# Altium schematic symbol library THU VIEN CHAN v1.SchLib: 217 symbols (part 1 of 2)
Pins are listed as number, name and electrical type; pins without a type are passive.

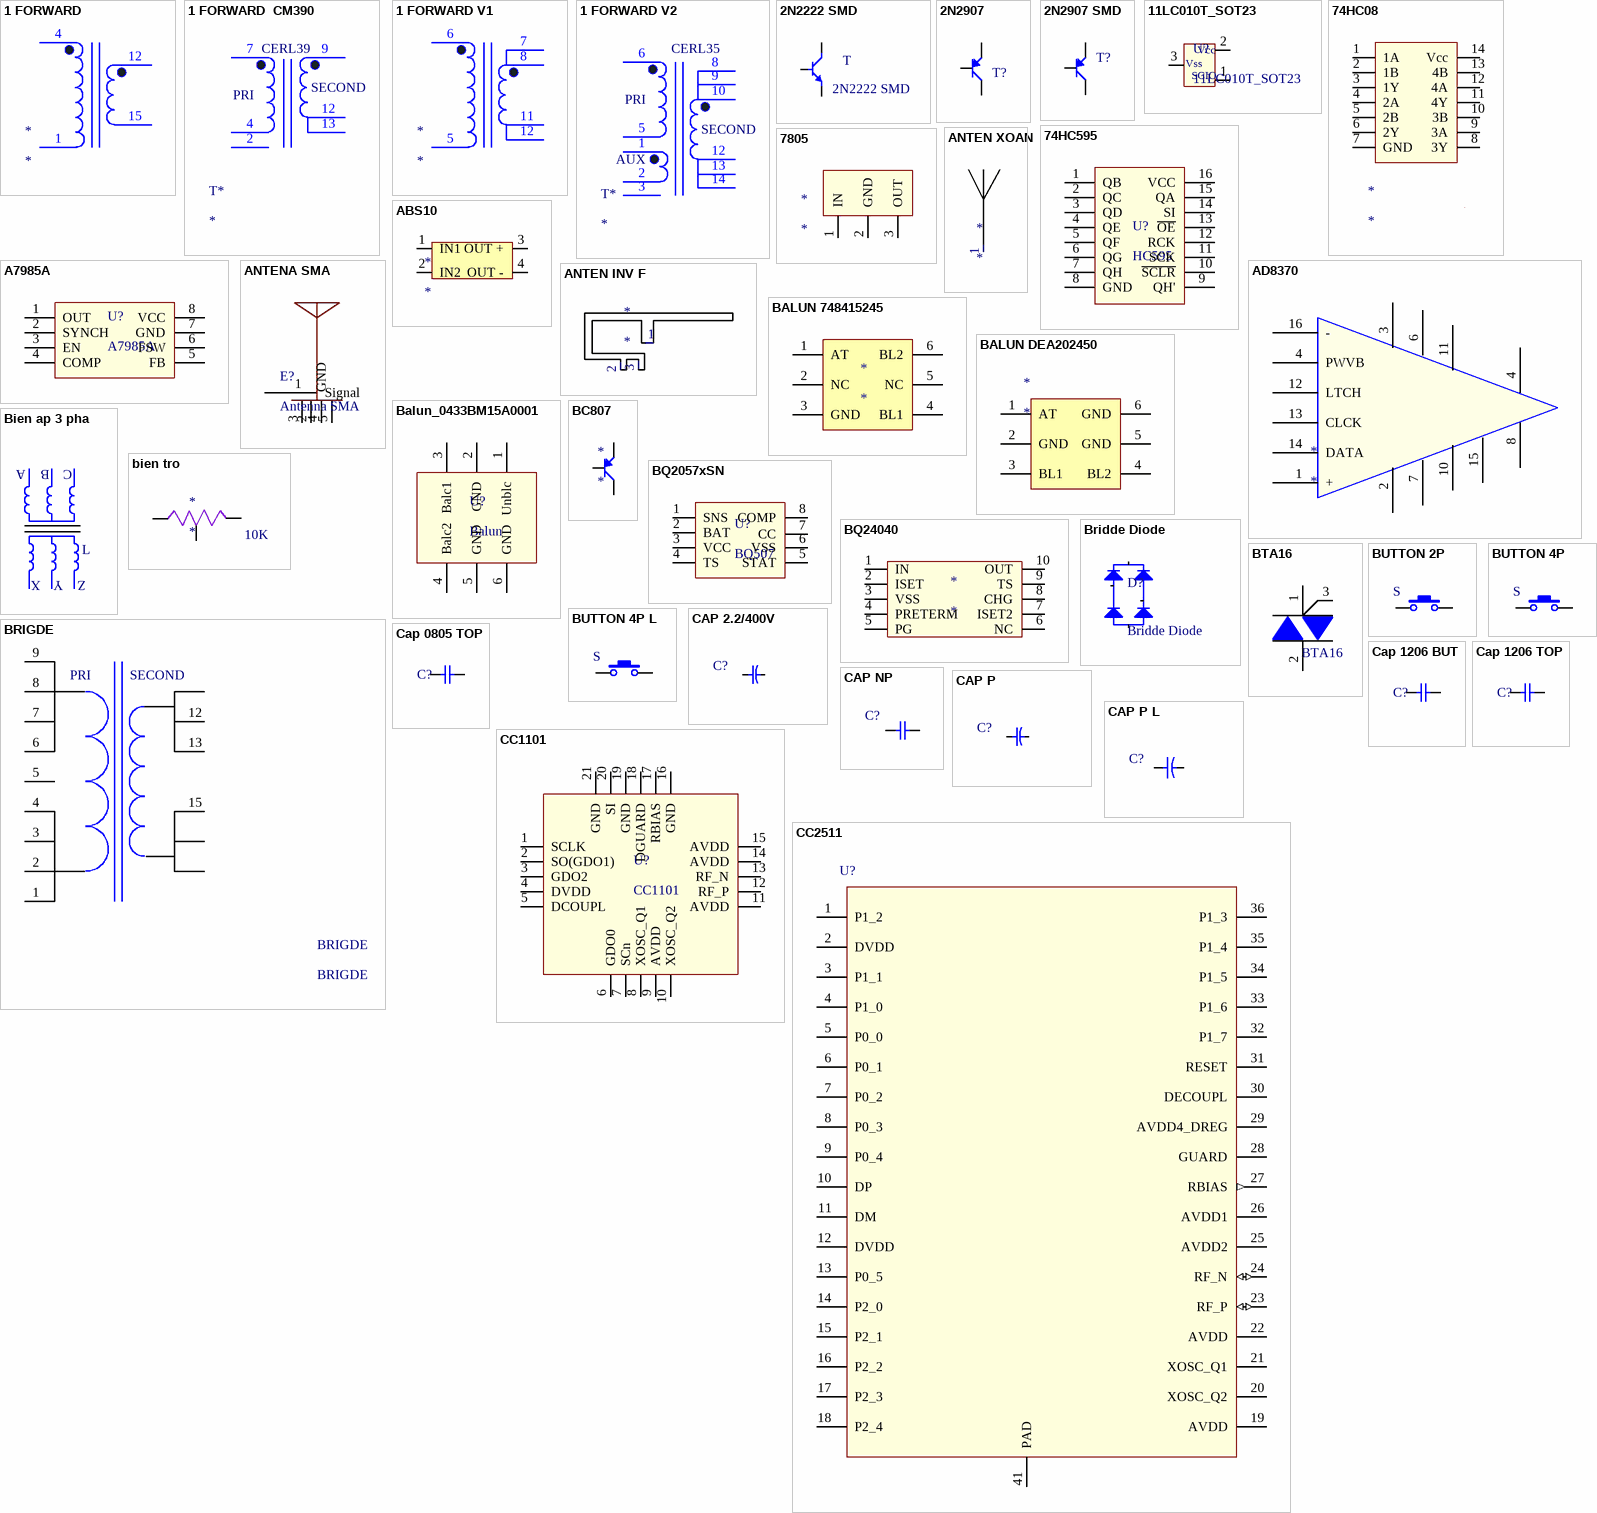
[diagram p0: symbols 1 FORWARD to CC2511]

## 1 FORWARD
designator *
footprint PUSHPULL_TRAN
pins: 1, 4, 12, 15

## 1 FORWARD  CM390
designator T*
footprint ERL39 - CM390
pins: 2, 4, 7, 9, 12, 13
text: CERL39; SECOND; PRI

## 1 FORWARD V1
designator *
footprint PUSHPULL_TRAN
pins: 5, 6, 7, 8, 11, 12

## 1 FORWARD V2
designator T*
footprint PUSHPULL_TRAN
pins: 1, 2, 3, 5, 6, 8, 9, 10, 12, 13, 14
text: CERL35; PRI; SECOND; AUX

## 2N2222 SMD
designator T
NPN Bipolar Transistor; Published: 8-Jun-2000; LatestRevisionDate: 17-Jul-2002; LatestRevisionNote: Re-released for DXP Platform.; PackageReference: TO-226; Publisher: Altium Limited; Code_JEDEC: TO-226-AA
footprint SOT23 TOP
simulation model NPN
signal-integrity model NPN
pins: 1 B, 2 C, 3 E

## 2N2907
designator T?
PNP Bipolar Transistor; Published: 8-Jun-2000; LatestRevisionDate: 17-Jul-2002; LatestRevisionNote: Re-released for DXP Platform.; PackageReference: SOT-23B; Publisher: Altium Limited; Code_JEDEC: SOT-23
footprint tran
simulation model PNP
signal-integrity model PNP
pins: 1 E, 2 B, 3 C

## 2N2907 SMD
designator T?
PNP Bipolar Transistor; Published: 8-Jun-2000; LatestRevisionDate: 17-Jul-2002; LatestRevisionNote: Re-released for DXP Platform.; PackageReference: SOT-23B; Publisher: Altium Limited; Code_JEDEC: SOT-23
footprint SOT23 TOP
simulation model PNP
signal-integrity model PNP
pins: 1 B, 2 C, 3 E

## 11LC010T_SOT23
designator U?
footprint SOT_23_TO_236AB (SOT23 OR TO-236AB)
pins: 1 SCIO, 2 VCC, 3 VSS
text: Vcc; Vss

## 74HC08
designator *
footprint Model Name (Footprint not found)
footprint so14 (SOIC, 16-Leads, Body 9.9x3.9mm, Pitch 1.27mm, IPC Medium Density)
pins: 1 1A, 2 1B, 3 1Y, 4 2A, 5 2B, 6 2Y, 7 GND, 8 3Y, 9 3A, 10 3B, 11 4Y, 12 4A, 13 4B, 14 Vcc

## 74HC595
designator U?, comment HC595
footprint DIP16 (DIP, 40-Leads, Row Spacing 15.24mm, Pitch 2.54mm, Body 51.8x13.5mm)
pins: 1 QB, 2 QC, 3 QD, 4 QE, 5 QF, 6 QG, 7 QH, 8 GND, 9 QH', 10 ~{SCLR}, 11 SCK, 12 RCK, 13 ~{OE}, 14 SI, 15 QA, 16 VCC

## 7805
designator *
footprint 78XX
pins: 1 IN, 2 GND, 3 OUT

## A7985A
designator U?
pins: 1 OUT, 2 SYNCH, 3 EN, 4 COMP, 5 FB, 6 FSW, 7 GND, 8 VCC

## ABS10
designator *
footprint abs10
pins: 1 IN1, 2 IN2, 3 OUT +, 4 OUT -

## AD8370
designator *
pins: 1 +, 2, 3, 4 PWVB , 4, 6, 7, 8, 10, 11, 12 LTCH, 13 CLCK, 14 DATA, 15, 16 -

## ANTEN INV F
designator *
footprint anten INV F thin
pins: 1, 2, 3

## ANTEN XOAN
designator *
footprint ATEN XOAN
pins: 1

## ANTENA SMA
designator E?, comment Antenna SMA
footprint ANTENA SMA
pins: 1 Signal, 2 GND, 3 GND, 4 GND, 5 GND

## BALUN 748415245
designator *
footprint BALUN 748415245
pins: 1 AT, 2 NC, 3 GND, 4 BL1, 5 NC, 6 BL2

## BALUN DEA202450
designator *
footprint BALUN DEA202450BT-7210A1
pins: 1 AT, 2 GND, 3 BL1, 4 BL2, 5 GND, 6 GND

## Balun_0433BM15A0001
designator U?, comment Balun
footprint Balun_0433BM15A0001
pins: 1 Unblc, 2 GND, 3 Balc1, 4 Balc2, 5 GND, 6 GND

## BC807
designator *
footprint SOT-323
pins: 1 B, 2 E, 3 C

## Bien ap 3 pha
designator L
Inductor S; Code_IEC: 1005; Value: 10mH; Published: 8-Jun-2000; LatestRevisionDate: 17-Jul-2002; LatestRevisionNote: Re-released for DXP Platform.; PackageReference: 0402-A; Publisher: Altium Limited; Code_JEITA: 0402
simulation model INDUCTOR (Inductor)
signal-integrity model Inductor
footprint cuon cam 200M 3C
pins: 2, 2, 2, 2, 2, 2
text: A; B; C; X; Y; Z

## bien tro
designator *  value 10K
footprint Bien tro 1
signal-integrity model R? (Res variator)
pins: 1, 2, 3

## BQ2057xSN
designator U?, comment BQ507
Charger
footprint 8-SOIC
signal-integrity model BQ507 (Charger)
pins: 1 SNS, 2 BAT, 3 VCC, 4 TS, 5 STAT, 6 VSS, 7 CC, 8 COMP

## BQ24040
designator *
footprint bq24040
pins: 1 IN, 2 ISET, 3 VSS, 4 PRETERM, 5 PG, 6 NC, 7 ISET2, 8 CHG, 9 TS, 10 OUT

## Bridde Diode
designator D?
High Conductance Fast Diode; Published: 8-Jun-2000; LatestRevisionDate: 17-Jul-2002; LatestRevisionNote: Re-released for DXP Platform.; DatasheetVersion: 1997; PackageReference: DO-35; Publisher: Altium Limited; Code_JEDEC: DO-204-AH; ComponentLink1Description: Manufacturer Link; ComponentLink1URL: http://www.fairchildsemi.com/; ComponentLink2Description: Datasheet; ComponentLink2URL: http://www.fairchildsemi.com/ds/1N%2F1N4448.pdf
footprint DIODE CAU
pins: 1 +, 2 IN, 3 IN, 4 --

## BRIGDE
designator BRIGDE
footprint PUSHPULL_TRAN
pins: 1, 2, 3, 4, 5 16, 6, 7, 8, 9, 12, 13, 15, ?1, ?2, ?3
text: PRI; SECOND

## BTA16
designator ?
Published: 8-Jun-2000; LatestRevisionDate: 17-Jul-2002; LatestRevisionNote: Re-released for DXP Platform.; DatasheetVersion: 1997; PackageReference: DO-35; Publisher: Altium Limited; Code_JEDEC: DO-204-AH; ComponentLink1Description: Manufacturer Link; ComponentLink1URL: http://www.fairchildsemi.com/; ComponentLink2Description: Datasheet; ComponentLink2URL: http://www.fairchildsemi.com/ds/1N%2F1N4448.pdf
footprint TO220
pins: 1 MT1, 2 MT2, 3 G

## BUTTON 2P
designator S  (value not drawn)
Switch; Published: 24-Mar-1999; LatestRevisionDate: 17-Jul-2002; LatestRevisionNote: Re-released for DXP Platform.; PackageReference: SPST-2; Publisher: Altium Limited
footprint Nut nhan 2 chan
pins: 1, 2

## BUTTON 4P
designator S  (value not drawn)
Switch; Published: 24-Mar-1999; LatestRevisionDate: 17-Jul-2002; LatestRevisionNote: Re-released for DXP Platform.; PackageReference: SPST-2; Publisher: Altium Limited
footprint Nut nhan 4 chan
pins: 1, 2, 3, 4

## BUTTON 4P L
designator S  (value not drawn)
Switch; Published: 24-Mar-1999; LatestRevisionDate: 17-Jul-2002; LatestRevisionNote: Re-released for DXP Platform.; PackageReference: SPST-2; Publisher: Altium Limited
footprint Nut nhan 4P L
3D model BUTTON_TO (PCB3D Model)
pins: 1, 2, 3, 4

## CAP 2.2/400V
designator C?
Value: 100pF; Published: 23-Sep-2002; PackageReference: CAPR5-4X5; Publisher: Altium Limited
simulation model CAP (Capacitor)
signal-integrity model Cap
footprint CAP 2.2/400 kelmet
3D model CAP 2.2/400 (PCB3D Model)
pins: 1, 2

## Cap 0805 TOP
designator C?
Capacitor; Value: 104; Published: 8-Jun-2000; LatestRevisionDate: 17-Jul-2002; LatestRevisionNote: Re-released for DXP Platform.; PackageReference: RAD-0.3; Publisher: Altium Limited
simulation model CAP (Capacitor)
signal-integrity model Cap
footprint CAP 0805
pins: 1, 2

## Cap 1206 BUT
designator C?
Capacitor; Value: 104; Published: 8-Jun-2000; LatestRevisionDate: 17-Jul-2002; LatestRevisionNote: Re-released for DXP Platform.; PackageReference: RAD-0.3; Publisher: Altium Limited
simulation model CAP (Capacitor)
signal-integrity model Cap
footprint CAP 1206 BUT
3D model 1206_SMD_Resistor (PCB3D Model)
pins: 1, 2

## Cap 1206 TOP
designator C?
Capacitor; Value: 104; Published: 8-Jun-2000; LatestRevisionDate: 17-Jul-2002; LatestRevisionNote: Re-released for DXP Platform.; PackageReference: RAD-0.3; Publisher: Altium Limited
simulation model CAP (Capacitor)
signal-integrity model Cap
footprint CAP 1206 TOP
pins: 1, 2

## CAP NP
designator C?
Capacitor; Value: 104; Published: 8-Jun-2000; LatestRevisionDate: 17-Jul-2002; LatestRevisionNote: Re-released for DXP Platform.; PackageReference: RAD-0.3; Publisher: Altium Limited
footprint RAD-0.3 (Radial Cap, Thru-Hole; 2 Leads; 0.3 in Pin Spacing)
footprint CAPR2.54-5.1x3.2 (Capacitor, Ceramic, Thru-Hole, Dipped Radial; Body 5.1 x 3.2 mm (WxT) Pin Spacing 2.54 mm (typ))
footprint CAPR5.08-7.8x3.2 (Capacitor, Ceramic, Thru-Hole, Dipped Radial; Body 7.8 x 3.2 mm (WxT) Pin Spacing 5.08 mm (typ))
simulation model CAP (Capacitor)
signal-integrity model Cap
footprint Tu 104
pins: 1, 2

## CAP P
designator C?
Value: 100pF; Published: 23-Sep-2002; PackageReference: CAPR5-4X5; Publisher: Altium Limited
simulation model CAP (Capacitor)
signal-integrity model Cap
footprint Tu loc 150mil
3D model CAP_8X11_5 (PCB3D Model)
pins: 1, 2

## CAP P L
designator C?
Value: 100pF; Published: 23-Sep-2002; PackageReference: CAPR5-4X5; Publisher: Altium Limited
simulation model CAP (Capacitor)
signal-integrity model Cap
footprint CAP3
pins: 1, 2

## CC1101
designator U?
footprint qfn20
pins: 1 SCLK, 2 SO(GDO1), 3 GDO2, 4 DVDD, 5 DCOUPL, 6 GDO0, 7 SCn, 8 XOSC_Q1, 9 AVDD, 10 XOSC_Q2, 11 AVDD, 12 RF_P, 13 RF_N, 14 AVDD, 15 AVDD, 16 GND, 17 RBIAS, 18 DGUARD, 19 GND, 20 SI, 21 GND

## CC2511
designator U?
2.4 GHz IEEE 802.15.4 RF Transceiver; Published: 29-May-2009; DatasheetVersion: Dec-2007; PackageVersion: Jul-2007; PackageReference: RHD28; Publisher: Altium Limited; PackageDescription: 28-Pin Plastic Quad Flat No-Lead 0.5 mm Pitch; Code_JEDEC: MO-220; ComponentLink1Description: Datasheet; ComponentLink1URL: http://focus.ti.com/lit/ds/symlink/cc2520.pdf
footprint CC253X
pins: 1 P1_2 (power), 2 DVDD (power), 3 P1_1 (power), 4 P1_0 (power), 5 P0_0 (power), 6 P0_1 (power), 7 P0_2 (power), 8 P0_3 (power), 9 P0_4 (power), 10 DP (power), 11 DM (power), 12 DVDD (power), 13 P0_5 (power), 14 P2_0 (power), 15 P2_1 (power), 16 P2_2 (power), 17 P2_3 (power), 18 P2_4 (power), 19 AVDD (power), 20 XOSC_Q2 (power), 21 XOSC_Q1 (power), 22 AVDD, 23 RF_P (io), 24 RF_N (io), 25 AVDD2 (power), 26 AVDD1 (power), 27 RBIAS (out), 28 GUARD (power), 29 AVDD4_DREG (power), 30 DECOUPL, 31 RESET (power), 32 P1_7 (power), 33 P1_6 (power), 34 P1_5 (power), 35 P1_4 (power), 36 P1_3 (power), 41 PAD (power)

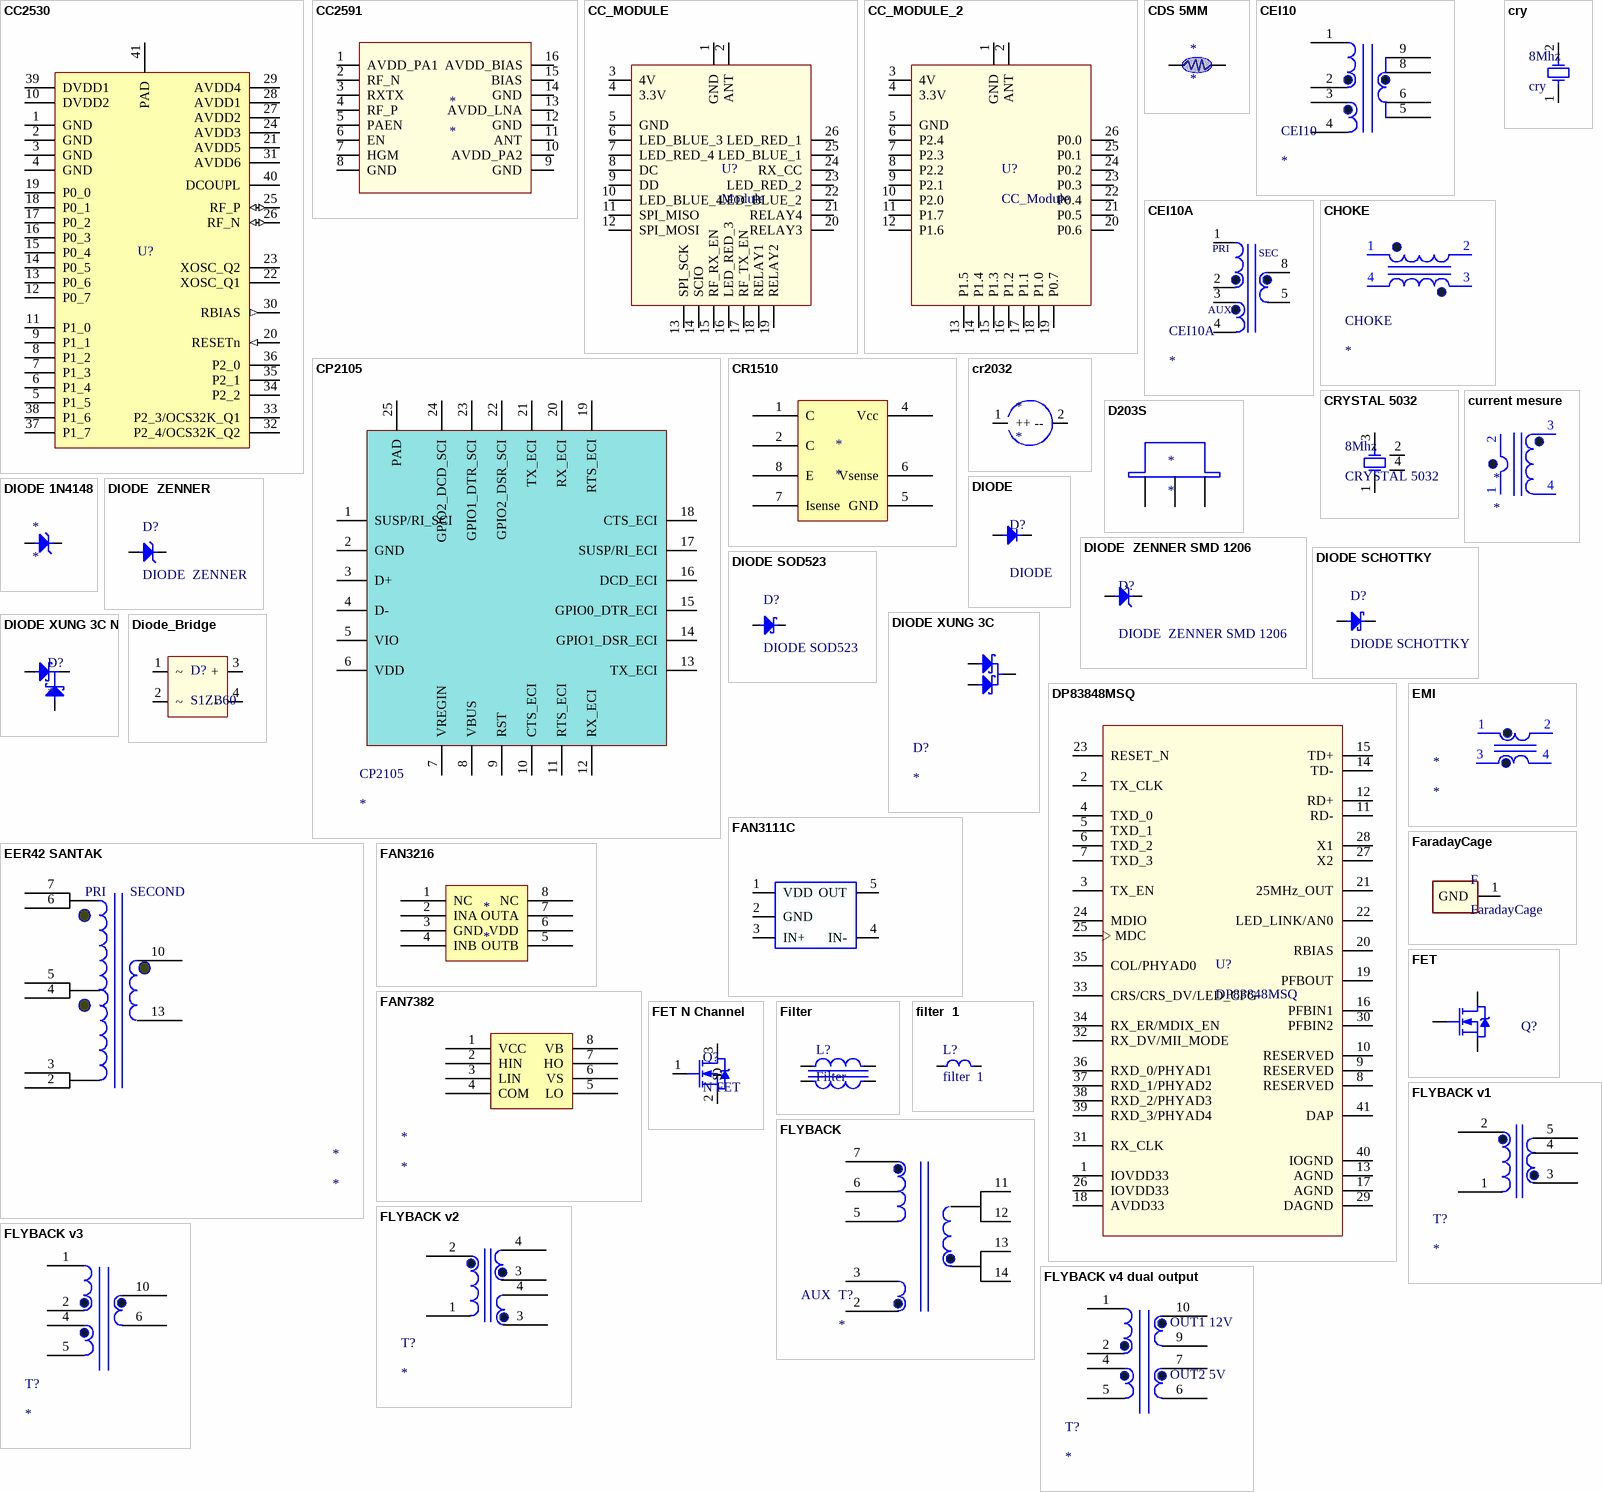
[diagram p1: symbols CC2530 to FLYBACK v4 dual output]

## CC2530
designator U?
2.4 GHz IEEE 802.15.4 RF Transceiver; Published: 29-May-2009; DatasheetVersion: Dec-2007; PackageVersion: Jul-2007; PackageReference: RHD28; Publisher: Altium Limited; PackageDescription: 28-Pin Plastic Quad Flat No-Lead 0.5 mm Pitch; Code_JEDEC: MO-220; ComponentLink1Description: Datasheet; ComponentLink1URL: http://focus.ti.com/lit/ds/symlink/cc2520.pdf
footprint CC253X
pins: 1 GND (power), 2 GND (power), 3 GND (power), 4 GND (power), 5 P1_5 (power), 6 P1_4 (power), 7 P1_3 (power), 8 P1_2 (power), 9 P1_1 (power), 10 DVDD2 (power), 11 P1_0 (power), 12 P0_7 (power), 13 P0_6 (power), 14 P0_5 (power), 15 P0_4 (power), 16 P0_3 (power), 17 P0_2 (power), 18 P0_1 (power), 19 P0_0 (power), 20 RESETn (in), 21 AVDD5 (power), 22 XOSC_Q1, 23 XOSC_Q2, 24 AVDD3 (power), 25 RF_P (io), 26 RF_N (io), 27 AVDD2 (power), 28 AVDD1 (power), 29 AVDD4 (power), 30 RBIAS (out), 31 AVDD6 (power), 32 P2_4/OCS32K_Q2 (power), 33 P2_3/OCS32K_Q1 (power), 34 P2_2 (power), 35 P2_1 (power), 36 P2_0 (power), 37 P1_7 (power), 38 P1_6 (power), 39 DVDD1 (power), 40 DCOUPL (power), 41 PAD (power)

## CC2591
designator *
footprint CC2591
pins: 1 AVDD_PA1, 2 RF_N, 3 RXTX, 4 RF_P, 5 PAEN, 6 EN, 7 HGM, 8 GND, 9 GND, 10 AVDD_PA2, 11 ANT, 12 GND, 13 AVDD_LNA, 14 GND, 15 BIAS, 16 AVDD_BIAS

## CC_MODULE
designator U?, comment Module
footprint CC_MODULE
pins: 1 GND, 2 ANT, 3 4V, 4 3.3V, 5 GND, 6 LED_BLUE_3, 7 LED_RED_4, 8 DC, 9 DD, 10 LED_BLUE_4, 11 SPI_MISO, 12 SPI_MOSI, 13 SPI_SCK, 14 SCIO, 15 RF_RX_EN, 16 LED_RED_3, 17 RF_TX_EN, 18 RELAY1, 19 RELAY2, 20 RELAY3, 21 RELAY4, 22 LED_BLUE_2, 23 LED_RED_2, 24 RX_CC, 25 LED_BLUE_1, 26 LED_RED_1

## CC_MODULE_2
designator U?, comment CC_Module
footprint cc_module
pins: 1 GND, 2 ANT, 3 4V, 4 3.3V, 5 GND, 6 P2.4, 7 P2.3, 8 P2.2, 9 P2.1, 10 P2.0, 11 P1.7, 12 P1.6, 13 P1.5, 14 P1.4, 15 P1.3, 16 P1.2, 17 P1.1, 18 P1.0, 19 P0.7, 20 P0.6, 21 P0.5, 22 P0.4, 23 P0.3, 24 P0.2, 25 P0.1, 26 P0.0

## CDS 5MM
designator *
footprint cds
pins: 1, 2

## CEI10
designator CEI10
footprint CEI10-B
pins: 1, 2, 3, 4 15V, 5, 6, 8, 9

## CEI10A
designator CEI10A
footprint CEI10A
pins: 1, 2, 3, 4 15V, 5, 8
text: PRI; SEC; AUX

## CHOKE
designator CHOKE
footprint PUSHPULL_TRAN
pins: 1, 2, 3, 4

## CP2105
designator CP2105
footprint QFN24
pins: 1 SUSP/RI_SCI, 2 GND, 3 D+, 4 D-, 5 VIO, 6 VDD, 7 VREGIN, 8 VBUS, 9 RST, 10 CTS_ECI, 11 RTS_ECI, 12 RX_ECI, 13 TX_ECI, 14 GPIO1_DSR_ECI, 15 GPIO0_DTR_ECI, 16 DCD_ECI, 17 SUSP/RI_ECI, 18 CTS_ECI, 19 RTS_ECI, 20 RX_ECI, 21 TX_ECI, 22 GPIO2_DSR_SCI, 23 GPIO1_DTR_SCI, 24 GPIO2_DCD_SCI, 25 PAD

## CR1510
designator *
footprint SOIC_7
pins: 1 C, 2 C, 4 Vcc, 5 GND, 6 Vsense, 7 Isense, 8 E

## cr2032
designator *
footprint BAT 27A
pins: 1 ++, 2 --

## cry
designator 8Mhz
Crystal Oscillator; Published: 8-Jun-2000; LatestRevisionDate: 17-Jul-2002; LatestRevisionNote: Re-released for DXP Platform.; PackageReference: R38; Publisher: Altium Limited
footprint cry
simulation model XTAL (Spice Subcircuit)
pins: 1 OSC1, 2 OSC2

## CRYSTAL 5032
designator 8Mhz
Crystal Oscillator; Published: 8-Jun-2000; LatestRevisionDate: 17-Jul-2002; LatestRevisionNote: Re-released for DXP Platform.; PackageReference: R38; Publisher: Altium Limited
footprint CRYSTAL 5032
simulation model XTAL (Spice Subcircuit)
pins: 1 OSC1, 2, 3 OSC2, 4

## current mesure
designator *
pins: 1, 2, 3, 4

## D203S
designator *
footprint D203S
pins: 1 G, 2 S, 3 D

## DIODE
designator D?
Published: 8-Jun-2000; LatestRevisionDate: 17-Jul-2002; LatestRevisionNote: Re-released for DXP Platform.; DatasheetVersion: 1997; PackageReference: DO-35; Publisher: Altium Limited; Code_JEDEC: DO-204-AH; ComponentLink1Description: Manufacturer Link; ComponentLink1URL: http://www.fairchildsemi.com/; ComponentLink2Description: Datasheet; ComponentLink2URL: http://www.fairchildsemi.com/ds/1N%2F1N4448.pdf
footprint DIODE
simulation model 1N914 (DIODE)
signal-integrity model 1N914
pins: 1 A, 2 K

## DIODE 1N4148
designator *
footprint 1N4148 SMD
3D model 1N4148 (PCB3D Model)
pins: 1 A, 2 K

## DIODE  ZENNER
designator D?
High Conductance Fast Diode; Published: 8-Jun-2000; LatestRevisionDate: 17-Jul-2002; LatestRevisionNote: Re-released for DXP Platform.; DatasheetVersion: 1997; PackageReference: DO-35; Publisher: Altium Limited; Code_JEDEC: DO-204-AH; ComponentLink1Description: Manufacturer Link; ComponentLink1URL: http://www.fairchildsemi.com/; ComponentLink2Description: Datasheet; ComponentLink2URL: http://www.fairchildsemi.com/ds/1N%2F1N4448.pdf
footprint dx
simulation model 1N914 (DIODE)
signal-integrity model 1N914
pins: 1 A, 2 K

## DIODE  ZENNER SMD 1206
designator D?
High Conductance Fast Diode; Published: 8-Jun-2000; LatestRevisionDate: 17-Jul-2002; LatestRevisionNote: Re-released for DXP Platform.; DatasheetVersion: 1997; PackageReference: DO-35; Publisher: Altium Limited; Code_JEDEC: DO-204-AH; ComponentLink1Description: Manufacturer Link; ComponentLink1URL: http://www.fairchildsemi.com/; ComponentLink2Description: Datasheet; ComponentLink2URL: http://www.fairchildsemi.com/ds/1N%2F1N4448.pdf
footprint DIODE 1206 BUT
simulation model 1N914 (DIODE)
signal-integrity model 1N914
pins: 1 A, 2 K

## DIODE SCHOTTKY
designator D?
High Conductance Fast Diode; Published: 8-Jun-2000; LatestRevisionDate: 17-Jul-2002; LatestRevisionNote: Re-released for DXP Platform.; DatasheetVersion: 1997; PackageReference: DO-35; Publisher: Altium Limited; Code_JEDEC: DO-204-AH; ComponentLink1Description: Manufacturer Link; ComponentLink1URL: http://www.fairchildsemi.com/; ComponentLink2Description: Datasheet; ComponentLink2URL: http://www.fairchildsemi.com/ds/1N%2F1N4448.pdf
footprint dx
simulation model 1N914 (DIODE)
signal-integrity model 1N914
pins: 1 A, 2 K

## DIODE SOD523
designator D?
Published: 8-Jun-2000; LatestRevisionDate: 17-Jul-2002; LatestRevisionNote: Re-released for DXP Platform.; DatasheetVersion: 1997; PackageReference: DO-35; Publisher: Altium Limited; Code_JEDEC: DO-204-AH; ComponentLink1Description: Manufacturer Link; ComponentLink1URL: http://www.fairchildsemi.com/; ComponentLink2Description: Datasheet; ComponentLink2URL: http://www.fairchildsemi.com/ds/1N%2F1N4448.pdf
footprint SOD523
simulation model 1N914 (DIODE)
signal-integrity model 1N914
pins: 1 A, 2 K

## DIODE XUNG 3C
designator D?
footprint TO220
pins: 1, 2, 3

## DIODE XUNG 3C N
designator D?
footprint TO220
pins: 1 A, 2 (power), 3

## Diode_Bridge
designator D?, comment S1ZB60
footprint DIODE_BRIDGE_S1ZB60
pins: 1 ~ (oc), 2 ~ (oc), 3 + (oc), 4 - (oc)

## DP83848MSQ
designator U?
footprint VQFN_RHA_40PINS
pins: 1 IOVDD33, 2 TX_CLK, 3 TX_EN, 4 TXD_0, 5 TXD_1, 6 TXD_2, 7 TXD_3, 8 RESERVED, 9 RESERVED, 10 RESERVED, 11 RD-, 12 RD+, 13 AGND, 14 TD-, 15 TD+, 16 PFBIN1, 17 AGND, 18 AVDD33, 19 PFBOUT, 20 RBIAS, 21 25MHz_OUT, 22 LED_LINK/AN0, 23 RESET_N, 24 MDIO, 25 MDC, 26 IOVDD33, 27 X2, 28 X1, 29 DAGND, 30 PFBIN2, 31 RX_CLK, 32 RX_DV/MII_MODE, 33 CRS/CRS_DV/LED_CFG, 34 RX_ER/MDIX_EN, 35 COL/PHYAD0, 36 RXD_0/PHYAD1, 37 RXD_1/PHYAD2, 38 RXD_2/PHYAD3, 39 RXD_3/PHYAD4, 40 IOGND, 41 DAP

## EER42 SANTAK
designator *
footprint ERL42  THIEU CHAN
pins: 2, 3, 4, 5, 6, 7, 10, 13
text: PRI; SECOND

## EMI
designator *
footprint EMI
pins: 1, 2, 3, 4

## FAN3111C
designator *
footprint FAN3111C
pins: 1 VDD, 2 GND, 3 IN+, 4 IN-, 5 OUT

## FAN3216
designator *
footprint D008_L (8-Pin Small Outline Integrated Circuit 1.27 mm Pitch, IPC High Density)
pins: 1 NC, 2 INA, 3 GND, 4 INB, 5 OUTB, 6 VDD, 7 OUTA, 8 NC

## FAN7382
designator *
footprint JG008 (DIP; 8 Leads; Row Spacing 7.62 mm; Pitch 2.54 mm)
pins: 1 VCC, 2 HIN, 3 LIN, 4 COM, 5 LO, 6 VS, 7 HO, 8 VB

## FaradayCage
designator F
footprint FaradayCage
pins: 1 GND

## FET
designator Q?  (value not drawn)
MOSFET; Note: Pin 2 is electrically connected to pin 4.; Published: 8-Jun-2000; LatestRevisionDate: 17-Jul-2002; LatestRevisionNote: Re-released for DXP Platform.; DatasheetVersion: Aug-1997; PackageVersion: Feb-1997; PackageReference: TO-220AB; Publisher: Altium Limited; PackageDescription: TO, Thru-Hole, Vertical, Heatsink Mounted; 3 In-Line Leads; Pitch 2.54 mm; ComponentLink1Description: Manufacturer Link; ComponentLink1URL: http://www.irf.com/; ComponentLink2Description: Datasheet; ComponentLink2URL: http://www.irf.com/product-info/datasheets/data/irf3205.pdf
footprint TO220
simulation model IRF3205 (SUBCKT)
pins: 1 G, 2 D, 3 S

## FET N Channel
designator Q?, comment N FET
footprint SOT_23_TO_236AB (SOT23 OR TO-236AB)
pins: 1 G, 2 S, 3 D

## Filter
designator L?
Code_IEC: 1005; Value: 10mH; Published: 8-Jun-2000; LatestRevisionDate: 29-May-2009; LatestRevisionNote: IPC-7351 Footprint Added.; PackageReference: 0402-A; Publisher: Altium Limited; PackageDescription: Chip Inductor; Code_JEITA: 0402
simulation model INDUCTOR (Inductor)
signal-integrity model Inductor
footprint filter
pins: 1, 2, 3, 4

## filter  1
designator L?
Inductor; Code_IEC: 1005; Value: 10mH; Published: 8-Jun-2000; LatestRevisionDate: 29-May-2009; LatestRevisionNote: IPC-7351 Footprint Added.; PackageReference: 0402-A; Publisher: Altium Limited; PackageDescription: Chip Inductor; Code_JEITA: 0402
simulation model INDUCTOR (Inductor)
signal-integrity model Inductor
footprint filter - duplicate
pins: 1, 2

## FLYBACK
designator T?
pins: 2, 3, 5, 6, 7, 11, 12, 13, 14
text: AUX

## FLYBACK v1
designator T?
pins: 1, 2, 3, 4 15V, 5 15V

## FLYBACK v2
designator T?
pins: 1, 2, 3, 3, 4 15V, 4 15V

## FLYBACK v3
designator T?
footprint CEE13
pins: 1, 2, 4, 5 15V, 6, 10

## FLYBACK v4 dual output
designator T?
footprint ee19
pins: 1, 2, 4, 5 15V, 6, 7, 9, 10
text: OUT1 12V; OUT2 5V

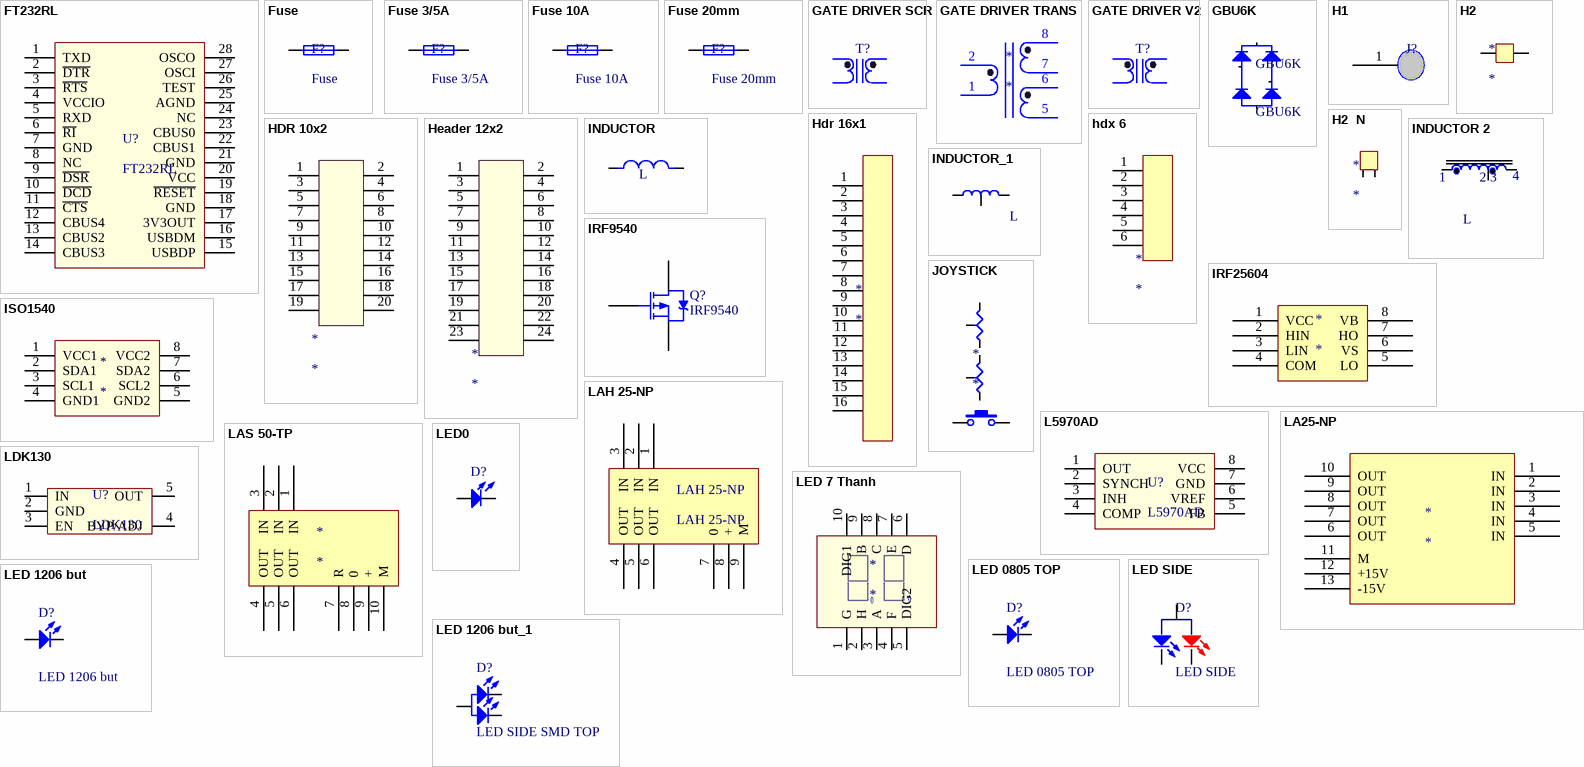
[diagram p2: symbols FT232RL to LED SIDE]

## FT232RL
designator U?
footprint ssop_28
pins: 1 TXD, 2 ~{DTR}, 3 ~{RTS}, 4 VCCIO, 5 RXD, 6 ~{RI}, 7 GND, 8 NC, 9 ~{DSR}, 10 ~{DCD}, 11 ~{CTS}, 12 CBUS4, 13 CBUS2, 14 CBUS3, 15 USBDP, 16 USBDM, 17 3V3OUT, 18 GND, 19 ~{RESET}, 20 VCC, 21 GND, 22 CBUS1, 23 CBUS0, 24 NC, 25 AGND, 26 TEST, 27 OSCI, 28 OSCO

## Fuse
designator F?
Published: 8-Jun-2000; LatestRevisionDate: 17-Jul-2002; LatestRevisionNote: Re-released for DXP Platform.; PackageReference: PIN-W2/E2.8; Publisher: Altium Limited; PackageDescription: Thru-Hole; 2 Leads
footprint RES -3w DUNG (Axial Device, Thru-Hole; 2 Leads; 0.3 in Pin Spacing)
simulation model FUSE (Spice Subcircuit)
pins: 1, 2

## Fuse 3/5A
designator F?
Fuse; Published: 8-Jun-2000; LatestRevisionDate: 17-Jul-2002; LatestRevisionNote: Re-released for DXP Platform.; PackageReference: PIN-W2/E2.8; Publisher: Altium Limited; PackageDescription: Thru-Hole; 2 Leads
footprint Fuse 3/5A
simulation model FUSE (Spice Subcircuit)
pins: 1, 2

## Fuse 10A
designator F?
Fuse; Published: 8-Jun-2000; LatestRevisionDate: 17-Jul-2002; LatestRevisionNote: Re-released for DXP Platform.; PackageReference: PIN-W2/E2.8; Publisher: Altium Limited; PackageDescription: Thru-Hole; 2 Leads
footprint FUSE 3/5A
simulation model FUSE (Spice Subcircuit)
pins: 1, 2

## Fuse 20mm
designator F?
Fuse; Published: 8-Jun-2000; LatestRevisionDate: 17-Jul-2002; LatestRevisionNote: Re-released for DXP Platform.; PackageReference: PIN-W2/E2.8; Publisher: Altium Limited; PackageDescription: Thru-Hole; 2 Leads
footprint FUSE 3/5A - duplicate
simulation model FUSE (Spice Subcircuit)
3D model Full_Fuse (PCB3D Model)
pins: 1, 2

## GATE DRIVER SCR
designator T?  (value not drawn)
footprint EI30
pins: 1, 6, 7, 12

## GATE DRIVER TRANS
designator *
footprint PUSHPULL_TRAN
pins: 1, 2, 5, 6, 7, 8

## GATE DRIVER V2
designator T?  (value not drawn)
footprint PUSHPULL_TRAN
pins: 1, 2, 3, 4

## GBU6K
designator GBU6K
High Conductance Fast Diode; Published: 8-Jun-2000; LatestRevisionDate: 17-Jul-2002; LatestRevisionNote: Re-released for DXP Platform.; DatasheetVersion: 1997; PackageReference: DO-35; Publisher: Altium Limited; Code_JEDEC: DO-204-AH; ComponentLink1Description: Manufacturer Link; ComponentLink1URL: http://www.fairchildsemi.com/; ComponentLink2Description: Datasheet; ComponentLink2URL: http://www.fairchildsemi.com/ds/1N%2F1N4448.pdf
footprint gbu6k
pins: 1 +, 2 IN, 3 IN, 4 --

## H1
designator J?  (value not drawn)
footprint H1A (1 Pad han day noi)
pins: 1

## H2
designator *
footprint HDR1X2 (Connector; Header; 2 Position)
pins: 1, 2

## H2  N
designator *
footprint HDR1X2 (Connector; Header; 2 Position)
pins: 1, 2

## HDR 10x2
designator *
footprint HDR2X10 (Connector; Header; 10x2 Position)
pins: 1, 2, 3, 4, 5, 6, 7, 8, 9, 10, 11, 12, 13, 14, 15, 16, 17, 18, 19, 20

## Hdr 16x1
designator *
footprint HDR1X16 (Connector; Header; 16 Position)
pins: 1, 2, 3, 4, 5, 6, 7, 8, 9, 10, 11, 12, 13, 14, 15, 16

## hdx 6
designator *
footprint hdx 6 2mm
pins: 1, 2, 3, 4, 5, 6

## Header 12x2
designator *
footprint HDR2X12 (Connector; Header; 12x2 Position)
pins: 1, 2, 3, 4, 5, 6, 7, 8, 9, 10, 11, 12, 13, 14, 15, 16, 17, 18, 19, 20, 21, 22, 23, 24

## INDUCTOR
designator L
Inductor; Code_IEC: 1005; Value: 10mH; Published: 8-Jun-2000; LatestRevisionDate: 17-Jul-2002; LatestRevisionNote: Re-released for DXP Platform.; PackageReference: 0402-A; Publisher: Altium Limited; Code_JEITA: 0402
simulation model INDUCTOR (Inductor)
signal-integrity model Inductor
footprint cuon cam 200M
pins: 1, 2

## INDUCTOR 2
designator L
Inductor S; Code_IEC: 1005; Value: 10mH; Published: 8-Jun-2000; LatestRevisionDate: 17-Jul-2002; LatestRevisionNote: Re-released for DXP Platform.; PackageReference: 0402-A; Publisher: Altium Limited; Code_JEITA: 0402
simulation model INDUCTOR (Inductor)
signal-integrity model Inductor
footprint cuon cam 200M 3C
pins: 1, 2, 3
text: 4

## INDUCTOR_1
designator L
Inductor S; Code_IEC: 1005; Value: 10mH; Published: 8-Jun-2000; LatestRevisionDate: 17-Jul-2002; LatestRevisionNote: Re-released for DXP Platform.; PackageReference: 0402-A; Publisher: Altium Limited; Code_JEITA: 0402
simulation model INDUCTOR (Inductor)
signal-integrity model Inductor
footprint cuon cam 200M 3C
pins: 1, 2, 3

## IRF9540
designator Q?
HEXFET P-Channel Power MOSFET; Note: Pin 2 is electrically connected to pin 4.; Published: 8-Jun-2000; LatestRevisionDate: 17-Jul-2002; LatestRevisionNote: Re-released for DXP Platform.; DatasheetVersion: PD-9.421C; PackageVersion: Feb-1997; PackageReference: TO-220AB; Publisher: Altium Limited; PackageDescription: TO, Thru-Hole, Vertical, Heatsink Mounted; 3 In-Line Leads; Pitch 2.54 mm; ComponentLink1Description: Manufacturer Link; ComponentLink1URL: http://www.irf.com/; ComponentLink2Description: Datasheet; ComponentLink2URL: http://www.irf.com/product-info/datasheets/data/irf9540.pdf
footprint fet
simulation model IRF9540 (SUBCKT)
pins: 1 G, 2 D, 3 S

## IRF25604
designator *
footprint SOIC 8 NB
pins: 1 VCC, 2 HIN, 3 LIN, 4 COM, 5 LO, 6 VS, 7 HO, 8 VB

## ISO1540
designator *
footprint SOIC 8 NB
pins: 1 VCC1, 2 SDA1, 3 SCL1, 4 GND1, 5 GND2, 6 SCL2, 7 SDA2, 8 VCC2

## JOYSTICK
designator *
footprint JOYSTICK
pins: 1 A, 2 VR, 3 B, 4, 5 VR, 6, 7, 7

## L5970AD
designator U?
pins: 1 OUT, 2 SYNCH, 3 INH, 4 COMP, 5 FB, 6 VREF, 7 GND, 8 VCC

## LA25-NP
designator *
footprint LA25-NP
pins: 1 IN, 2 IN, 3 IN, 4 IN, 5 IN, 6 OUT, 7 OUT, 8 OUT, 9 OUT, 10 OUT, 11 M, 12 +15V, 13 -15V

## LAH 25-NP
designator LAH 25-NP
footprint LAH 25-NP
pins: 1 IN, 2 IN, 3 IN, 4 OUT, 5 OUT, 6 OUT, 7 0, 8 +, 9 M

## LAS 50-TP
designator *
footprint LAS 50-TP_2
pins: 1 IN, 2 IN, 3 IN, 4 OUT, 5 OUT, 6 OUT, 7 R, 8 0, 9 +, 10 M

## LDK130
designator U?
pins: 1 IN, 2 GND, 3 EN, 4 BYP/ADJ, 5 OUT

## LED0
designator D?
Typical INFRARED GaAs LED; Published: 8-Jun-2000; LatestRevisionDate: 08-Jul-2005; LatestRevisionNote: Mech Layer 1 removed.; PackageReference: LED-0; Publisher: Altium Limited; PackageDescription: LED; 2 Leads
footprint CAP N1
simulation model LED0 (Diode)
pins: 1 A, 2 K

## LED 7 Thanh
designator *
footprint LED 7SEG
pins: 1 G, 2 H, 3 A, 4 F, 5 DIG2, 6 D, 7 E, 8 C, 9 B, 10 DIG1

## LED 0805 TOP
designator D?
Typical INFRARED GaAs LED; Published: 8-Jun-2000; LatestRevisionDate: 08-Jul-2005; LatestRevisionNote: Mech Layer 1 removed.; PackageReference: LED-0; Publisher: Altium Limited; PackageDescription: LED; 2 Leads
footprint LED 0805 TOP
simulation model LED0 (Diode)
pins: 1 A, 2 K

## LED 1206 but
designator D?
Typical INFRARED GaAs LED; Published: 8-Jun-2000; LatestRevisionDate: 08-Jul-2005; LatestRevisionNote: Mech Layer 1 removed.; PackageReference: LED-0; Publisher: Altium Limited; PackageDescription: LED; 2 Leads
footprint LED 1206 BUT
simulation model LED0 (Diode)
pins: 1 A, 2 K

## LED 1206 but_1
designator D?, comment LED SIDE SMD TOP
Typical INFRARED GaAs LED; Published: 8-Jun-2000; LatestRevisionDate: 08-Jul-2005; LatestRevisionNote: Mech Layer 1 removed.; PackageReference: LED-0; Publisher: Altium Limited; PackageDescription: LED; 2 Leads
footprint LED SMD SIDE
simulation model LED0 (Diode)
pins: 1 A, 2 K, 3 K

## LED SIDE
designator D?
Typical INFRARED GaAs LED; Published: 8-Jun-2000; LatestRevisionDate: 08-Jul-2005; LatestRevisionNote: Mech Layer 1 removed.; PackageReference: LED-0; Publisher: Altium Limited; PackageDescription: LED; 2 Leads
footprint LED_SIDE_VIEW_Bi_Color (LED_SIDE_VIEW_Bi_Color of Everlight)
simulation model LED0 (Diode)
pins: 1 A, 2 K1, 3 K2

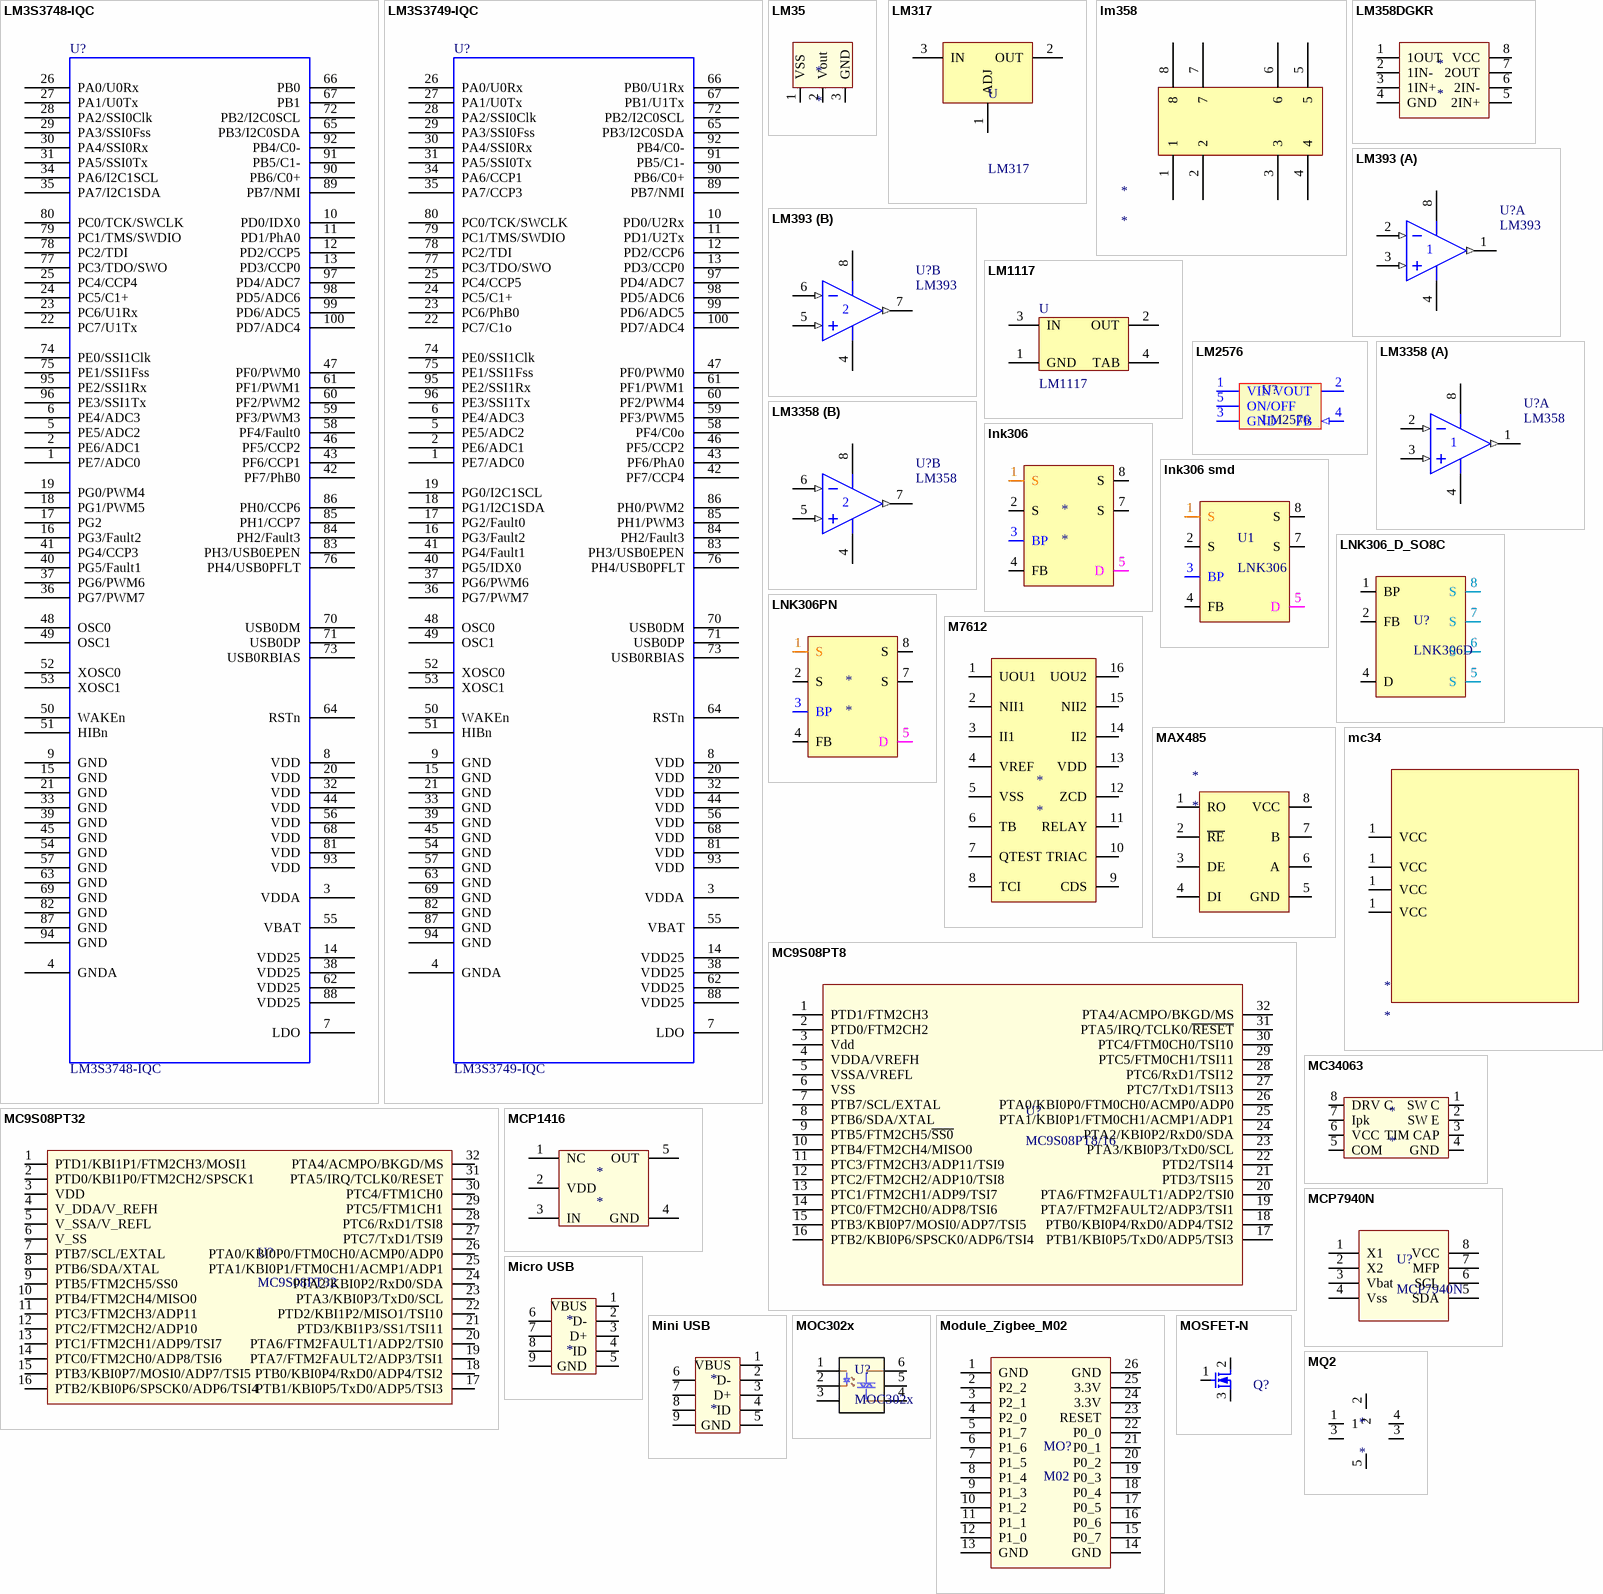
[diagram p3: symbols LM3S3748-IQC to MQ2]

## LM3S3748-IQC
designator U?
Stellaris ARM Cortex-M3 Microcontroller; MFG: Luminary Micro; LMI Class: Dust Devil; Ordering: LM3S3748-IQC
footprint QFP50P1600X1600X160-100N
pins: 1 PE7/ADC0, 2 PE6/ADC1, 3 VDDA, 4 GNDA, 5 PE5/ADC2, 6 PE4/ADC3, 7 LDO, 8 VDD, 9 GND, 10 PD0/IDX0, 11 PD1/PhA0, 12 PD2/CCP5, 13 PD3/CCP0, 14 VDD25, 15 GND, 16 PG3/Fault2, 17 PG2, 18 PG1/PWM5, 19 PG0/PWM4, 20 VDD, 21 GND, 22 PC7/U1Tx, 23 PC6/U1Rx, 24 PC5/C1+, 25 PC4/CCP4, 26 PA0/U0Rx, 27 PA1/U0Tx, 28 PA2/SSI0Clk, 29 PA3/SSI0Fss, 30 PA4/SSI0Rx, 31 PA5/SSI0Tx, 32 VDD, 33 GND, 34 PA6/I2C1SCL, 35 PA7/I2C1SDA, 36 PG7/PWM7, 37 PG6/PWM6, 38 VDD25, 39 GND, 40 PG5/Fault1, 41 PG4/CCP3, 42 PF7/PhB0, 43 PF6/CCP1, 44 VDD, 45 GND, 46 PF5/CCP2, 47 PF0/PWM0, 48 OSC0, 49 OSC1, 50 WAKEn, 51 HIBn, 52 XOSC0, 53 XOSC1, 54 GND, 55 VBAT, 56 VDD, 57 GND, 58 PF4/Fault0, 59 PF3/PWM3, 60 PF2/PWM2, 61 PF1/PWM1, 62 VDD25, 63 GND, 64 RSTn, 65 PB3/I2C0SDA, 66 PB0, 67 PB1, 68 VDD, 69 GND, 70 USB0DM, 71 USB0DP, 72 PB2/I2C0SCL, 73 USB0RBIAS, 74 PE0/SSI1Clk, 75 PE1/SSI1Fss, 76 PH4/USB0PFLT, 77 PC3/TDO/SWO, 78 PC2/TDI, 79 PC1/TMS/SWDIO, 80 PC0/TCK/SWCLK, 81 VDD, 82 GND, 83 PH3/USB0EPEN, 84 PH2/Fault3, 85 PH1/CCP7, 86 PH0/CCP6, 87 GND, 88 VDD25, 89 PB7/NMI, 90 PB6/C0+, 91 PB5/C1-, 92 PB4/C0-, 93 VDD, 94 GND, 95 PE2/SSI1Rx, 96 PE3/SSI1Tx, 97 PD4/ADC7, 98 PD5/ADC6, 99 PD6/ADC5, 100 PD7/ADC4

## LM3S3749-IQC
designator U?
Stellaris ARM Cortex-M3 Microcontroller; MFG: Luminary Micro; LMI Class: Dust Devil; Ordering: LM3S3749-IQC
footprint QFP50P1600X1600X160-100N
pins: 1 PE7/ADC0, 2 PE6/ADC1, 3 VDDA, 4 GNDA, 5 PE5/ADC2, 6 PE4/ADC3, 7 LDO, 8 VDD, 9 GND, 10 PD0/U2Rx, 11 PD1/U2Tx, 12 PD2/CCP6, 13 PD3/CCP0, 14 VDD25, 15 GND, 16 PG3/Fault2, 17 PG2/Fault0, 18 PG1/I2C1SDA, 19 PG0/I2C1SCL, 20 VDD, 21 GND, 22 PC7/C1o, 23 PC6/PhB0, 24 PC5/C1+, 25 PC4/CCP5, 26 PA0/U0Rx, 27 PA1/U0Tx, 28 PA2/SSI0Clk, 29 PA3/SSI0Fss, 30 PA4/SSI0Rx, 31 PA5/SSI0Tx, 32 VDD, 33 GND, 34 PA6/CCP1, 35 PA7/CCP3, 36 PG7/PWM7, 37 PG6/PWM6, 38 VDD25, 39 GND, 40 PG5/IDX0, 41 PG4/Fault1, 42 PF7/CCP4, 43 PF6/PhA0, 44 VDD, 45 GND, 46 PF5/CCP2, 47 PF0/PWM0, 48 OSC0, 49 OSC1, 50 WAKEn, 51 HIBn, 52 XOSC0, 53 XOSC1, 54 GND, 55 VBAT, 56 VDD, 57 GND, 58 PF4/C0o, 59 PF3/PWM5, 60 PF2/PWM4, 61 PF1/PWM1, 62 VDD25, 63 GND, 64 RSTn, 65 PB3/I2C0SDA, 66 PB0/U1Rx, 67 PB1/U1Tx, 68 VDD, 69 GND, 70 USB0DM, 71 USB0DP, 72 PB2/I2C0SCL, 73 USB0RBIAS, 74 PE0/SSI1Clk, 75 PE1/SSI1Fss, 76 PH4/USB0PFLT, 77 PC3/TDO/SWO, 78 PC2/TDI, 79 PC1/TMS/SWDIO, 80 PC0/TCK/SWCLK, 81 VDD, 82 GND, 83 PH3/USB0EPEN, 84 PH2/Fault3, 85 PH1/PWM3, 86 PH0/PWM2, 87 GND, 88 VDD25, 89 PB7/NMI, 90 PB6/C0+, 91 PB5/C1-, 92 PB4/C0-, 93 VDD, 94 GND, 95 PE2/SSI1Rx, 96 PE3/SSI1Tx, 97 PD4/ADC7, 98 PD5/ADC6, 99 PD6/ADC5, 100 PD7/ADC4

## LM35
designator *
footprint lm35
pins: 1 VSS, 2 Vout, 3 GND

## LM317
designator U
800mA Low-Dropout Linear Regulator; PartNumber: LM1117IMP-3.3; Manufacturer: National Semiconductor; CompType: LDO IC; PackageTopMarking: XYTT*N05B; Published: 27-Nov-2008; DatasheetVersion: Apr-2006; PackageVersion: revB, Apr-2003; PackageReference: MP04A; Publisher: Altium Limited; PackageDescription: Molded SOT-223, 6.50 x 3.56 x 1.6mm Body, 4 Lead, 2.3mm Pitch; RoHS: O; PinCount: 4; DigiKeyPartNumber: LM1117IMP-3.3CT-ND; Code_JEDEC: TO-261-AA; Code_IPC: SOT223-4; ComponentLink1Description: LM1117 Datasheet; ComponentLink1URL: http://www.national.com/ds/LM/LM1117.pdf; ComponentLink2Description: LM1117 Web Page; ComponentLink2URL: http://www.national.com/pf/LM/LM1117.html; ComponentLink3Description: MP04A Package Page; ComponentLink3URL: http://www.national.com/packaging/folders/mp04a.html
footprint TO220
pins: 1 ADJ (power), 2 OUT (power), 3 IN (power)

## lm358
designator *
pins: 1, 2, 3, 4, 5, 6, 7, 8

## LM358DGKR
designator *
footprint LM358
pins: 1 1OUT, 2 1IN-, 3 1IN+, 4 GND, 5 2IN+, 6 2IN-, 7 2OUT, 8 VCC

## LM393
designator U?
Dual Operational Amplifier; Published: 15-Apr-2002; LatestRevisionDate: 13-Apr-2006; LatestRevisionNote: IPC-7351 Footprint Added.; DatasheetVersion: Aug-1988; PackageVersion: Jan-1998; PackageReference: D008; Publisher: Altium Limited; PackageDescription: 8-Pin Small Outline Integrated Circuit 1.27 mm Pitch; Code_IPC: SOIC127P600-8; ComponentLink1Description: Manufacturer Link; ComponentLink1URL: http://www.ti.com/; ComponentLink2Description: Datasheet; ComponentLink2URL: http://www-s.ti.com/sc/ds/lm358.pdf
footprint D008_L (SOIC, 8-Leads, Body 4.9x3.9mm, Pitch 1.27mm, IPC High Density)
footprint D008_M (SOIC, 8-Leads, Body 4.9x3.9mm, Pitch 1.27mm, IPC Low Density)
footprint D008_M (SOIC, 8-Leads, Body 4.9x3.9mm, Pitch 1.27mm, IPC Low Density)
3D model D008 (8-Pin Small Outline Integrated Circuit 1.27 mm Pitch)
footprint LM393 (DIP; 8 Leads; Row Spacing 7.62 mm; Pitch 2.54 mm)
pins on every part: 4 V- (power), 8 V+ (power)
part A pins: 1 OUT (out), 2 IN- (in), 3 IN+ (in)
part B pins: 5 IN+ (in), 6 IN- (in), 7 OUT (out)

## LM1117
designator U
800mA Low-Dropout Linear Regulator; PartNumber: LM1117IMP-3.3; Manufacturer: National Semiconductor; CompType: LDO IC; PackageTopMarking: XYTT*N05B; Published: 27-Nov-2008; DatasheetVersion: Apr-2006; PackageVersion: revB, Apr-2003; PackageReference: MP04A; Publisher: Altium Limited; PackageDescription: Molded SOT-223, 6.50 x 3.56 x 1.6mm Body, 4 Lead, 2.3mm Pitch; RoHS: O; PinCount: 4; DigiKeyPartNumber: LM1117IMP-3.3CT-ND; Code_JEDEC: TO-261-AA; Code_IPC: SOT223-4; ComponentLink1Description: LM1117 Datasheet; ComponentLink1URL: http://www.national.com/ds/LM/LM1117.pdf; ComponentLink2Description: LM1117 Web Page; ComponentLink2URL: http://www.national.com/pf/LM/LM1117.html; ComponentLink3Description: MP04A Package Page; ComponentLink3URL: http://www.national.com/packaging/folders/mp04a.html
footprint 3,3V
pins: 1 GND (power), 2 OUT (power), 3 IN (power), 4 TAB (power)

## LM2576
designator U?
footprint LM2576
pins: 1 VIN (power), 2 VOUT (power), 3 GND (power), 4 FB (in), 5 ON/OFF

## LM3358
designator U?, comment LM358
Dual Operational Amplifier; Published: 15-Apr-2002; LatestRevisionDate: 13-Apr-2006; LatestRevisionNote: IPC-7351 Footprint Added.; DatasheetVersion: Aug-1988; PackageVersion: Jan-1998; PackageReference: D008; Publisher: Altium Limited; PackageDescription: 8-Pin Small Outline Integrated Circuit 1.27 mm Pitch; Code_IPC: SOIC127P600-8; ComponentLink1Description: Manufacturer Link; ComponentLink1URL: http://www.ti.com/; ComponentLink2Description: Datasheet; ComponentLink2URL: http://www-s.ti.com/sc/ds/lm358.pdf
footprint DIP 8 (DIP; 8 Leads; Row Spacing 7.62 mm; Pitch 2.54 mm)
pins on every part: 4 V- (power), 8 V+ (power)
part A pins: 1 OUT (out), 2 IN- (in), 3 IN+ (in)
part B pins: 5 IN+ (in), 6 IN- (in), 7 OUT (out)

## lnk306
designator *
footprint LNK306P
pins: 1 S, 2 S (power), 3 BP, 4 FB (power), 5 D, 7 S (power), 8 S (power)

## lnk306 smd
designator U1, comment LNK306
footprint SOIC 7P
pins: 1 S, 2 S (power), 3 BP, 4 FB (power), 5 D, 7 S (power), 8 S (power)

## LNK306_D_SO8C
designator U?, comment LNK306D
footprint SOIC_7
pins: 1 BP, 2 FB (power), 4 D (power), 5 S, 6 S, 7 S (power), 8 S (power)

## LNK306PN
designator *
footprint smd 8b
pins: 1 S, 2 S (power), 3 BP, 4 FB (power), 5 D, 7 S (power), 8 S (power)

## M7612
designator *
footprint DIP16 (DIP, 40-Leads, Row Spacing 15.24mm, Pitch 2.54mm, Body 51.8x13.5mm)
pins: 1 UOU1, 2 NII1, 3 II1, 4 VREF, 5 VSS, 6 TB, 7 QTEST, 8 TCI, 9 CDS, 10 TRIAC, 11 RELAY, 12 ZCD, 13 VDD, 14 II2, 15 NII2, 16 UOU2

## MAX485
designator *
footprint SOIC_8
pins: 1 RO, 2 ~{RE}, 3 DE, 4 DI, 5 GND, 6 A, 7 B, 8 VCC

## MC9S08PT8
designator U?, comment MC9S08PT8/16
footprint LQFP32
pins: 1 PTD1/FTM2CH3, 2 PTD0/FTM2CH2, 3 Vdd, 4 VDDA/VREFH, 5 VSSA/VREFL, 6 VSS, 7 PTB7/SCL/EXTAL, 8 PTB6/SDA/XTAL, 9 PTB5/FTM2CH5/~{SS0}, 10 PTB4/FTM2CH4/MISO0, 11 PTC3/FTM2CH3/ADP11/TSI9, 12 PTC2/FTM2CH2/ADP10/TSI8, 13 PTC1/FTM2CH1/ADP9/TSI7, 14 PTC0/FTM2CH0/ADP8/TSI6, 15 PTB3/KBI0P7/MOSI0/ADP7/TSI5, 16 PTB2/KBI0P6/SPSCK0/ADP6/TSI4, 17 PTB1/KBI0P5/TxD0/ADP5/TSI3, 18 PTB0/KBI0P4/RxD0/ADP4/TSI2, 19 PTA7/FTM2FAULT2/ADP3/TSI1, 20 PTA6/FTM2FAULT1/ADP2/TSI0, 21 PTD3/TSI15, 22 PTD2/TSI14, 23 PTA3/KBI0P3/TxD0/SCL, 24 PTA2/KBI0P2/RxD0/SDA, 25 PTA1/KBI0P1/FTM0CH1/ACMP1/ADP1, 26 PTA0/KBI0P0/FTM0CH0/ACMP0/ADP0, 27 PTC7/TxD1/TSI13, 28 PTC6/RxD1/TSI12, 29 PTC5/FTM0CH1/TSI11, 30 PTC4/FTM0CH0/TSI10, 31 PTA5/IRQ/TCLK0/~{RESET}, 32 PTA4/ACMPO/BKGD/MS

## MC9S08PT32
designator U?
footprint LQFP32
pins: 1 PTD1/KBI1P1/FTM2CH3/MOSI1, 2 PTD0/KBI1P0/FTM2CH2/SPSCK1, 3 VDD, 4 V_DDA/V_REFH, 5 V_SSA/V_REFL, 6 V_SS, 7 PTB7/SCL/EXTAL, 8 PTB6/SDA/XTAL, 9 PTB5/FTM2CH5/SS0, 10 PTB4/FTM2CH4/MISO0, 11 PTC3/FTM2CH3/ADP11, 12 PTC2/FTM2CH2/ADP10, 13 PTC1/FTM2CH1/ADP9/TSI7, 14 PTC0/FTM2CH0/ADP8/TSI6, 15 PTB3/KBI0P7/MOSI0/ADP7/TSI5, 16 PTB2/KBI0P6/SPSCK0/ADP6/TSI4, 17 PTB1/KBI0P5/TxD0/ADP5/TSI3, 18 PTB0/KBI0P4/RxD0/ADP4/TSI2, 19 PTA7/FTM2FAULT2/ADP3/TSI1, 20 PTA6/FTM2FAULT1/ADP2/TSI0, 21 PTD3/KBI1P3/SS1/TSI11, 22 PTD2/KBI1P2/MISO1/TSI10, 23 PTA3/KBI0P3/TxD0/SCL, 24 PTA2/KBI0P2/RxD0/SDA, 25 PTA1/KBI0P1/FTM0CH1/ACMP1/ADP1, 26 PTA0/KBI0P0/FTM0CH0/ACMP0/ADP0, 27 PTC7/TxD1/TSI9, 28 PTC6/RxD1/TSI8, 29 PTC5/FTM1CH1, 30 PTC4/FTM1CH0, 31 PTA5/IRQ/TCLK0/RESET, 32 PTA4/ACMPO/BKGD/MS

## mc34
designator *
pins: 1 VCC, 1 VCC, 1 VCC, 1 VCC

## MC34063
designator *
footprint DIP 8 (DIP; 8 Leads; Row Spacing 7.62 mm; Pitch 2.54 mm)
pins: 1 SW C, 2 SW E, 3 TIM CAP, 4 GND, 5 COM, 6 VCC, 7 Ipk, 8 DRV C

## MCP1416
designator *
footprint SOT235 TOP
pins: 1 NC, 2 VDD, 3 IN, 4 GND, 5 OUT

## MCP7940N
designator U?
footprint SOIC_8
pins: 1 X1, 2 X2, 3 Vbat, 4 Vss, 5 SDA, 6 SCL, 7 MFP, 8 VCC

## Micro USB
designator *
footprint Micro USB-A (USB A connector, 4pin, For USB sing)
pins: 1 VBUS, 2 D-, 3 D+, 4 ID, 5 GND, 6, 7, 8, 9

## Mini USB
designator *
footprint USB MINI (Connector; USB Mini-B, Sinking Type, SM; 5 Position; Right Angle)
pins: 1 VBUS, 2 D-, 3 D+, 4 ID, 5 GND, 6, 7, 8, 9

## MOC302x
designator U?
footprint dip6
pins: 1 A, 2 C, 3 NC, 4 MT1, 5 NC, 6 MT2

## Module_Zigbee_M02
designator MO?, comment M02
footprint Module_Zigbee_M02
pins: 1 GND, 2 P2_2, 3 P2_1, 4 P2_0, 5 P1_7, 6 P1_6, 7 P1_5, 8 P1_4, 9 P1_3, 10 P1_2, 11 P1_1, 12 P1_0, 13 GND, 14 GND, 15 P0_7, 16 P0_6, 17 P0_5, 18 P0_4, 19 P0_3, 20 P0_2, 21 P0_1, 22 P0_0, 23 RESET, 24 3.3V, 25 3.3V, 26 GND

## MOSFET-N
designator Q?
N-Channel MOSFET; Published: 8-Jun-2000; LatestRevisionDate: 17-Jul-2002; LatestRevisionNote: Re-released for DXP Platform.; PackageVersion: 1995/1996; PackageReference: E3; Publisher: Altium Limited; PackageDescription: TO, Flat Index; 3 In-Line, Axial Leads; Body Dia. 4.6mm; Lead Dia. 0.5 mm (max)
footprint TO220
simulation model NMOS (MOSFET-N)
pins: 1 G, 2 D, 3 S

## MQ2
designator *
pins: 1, 2, 3, 3, 4, 5

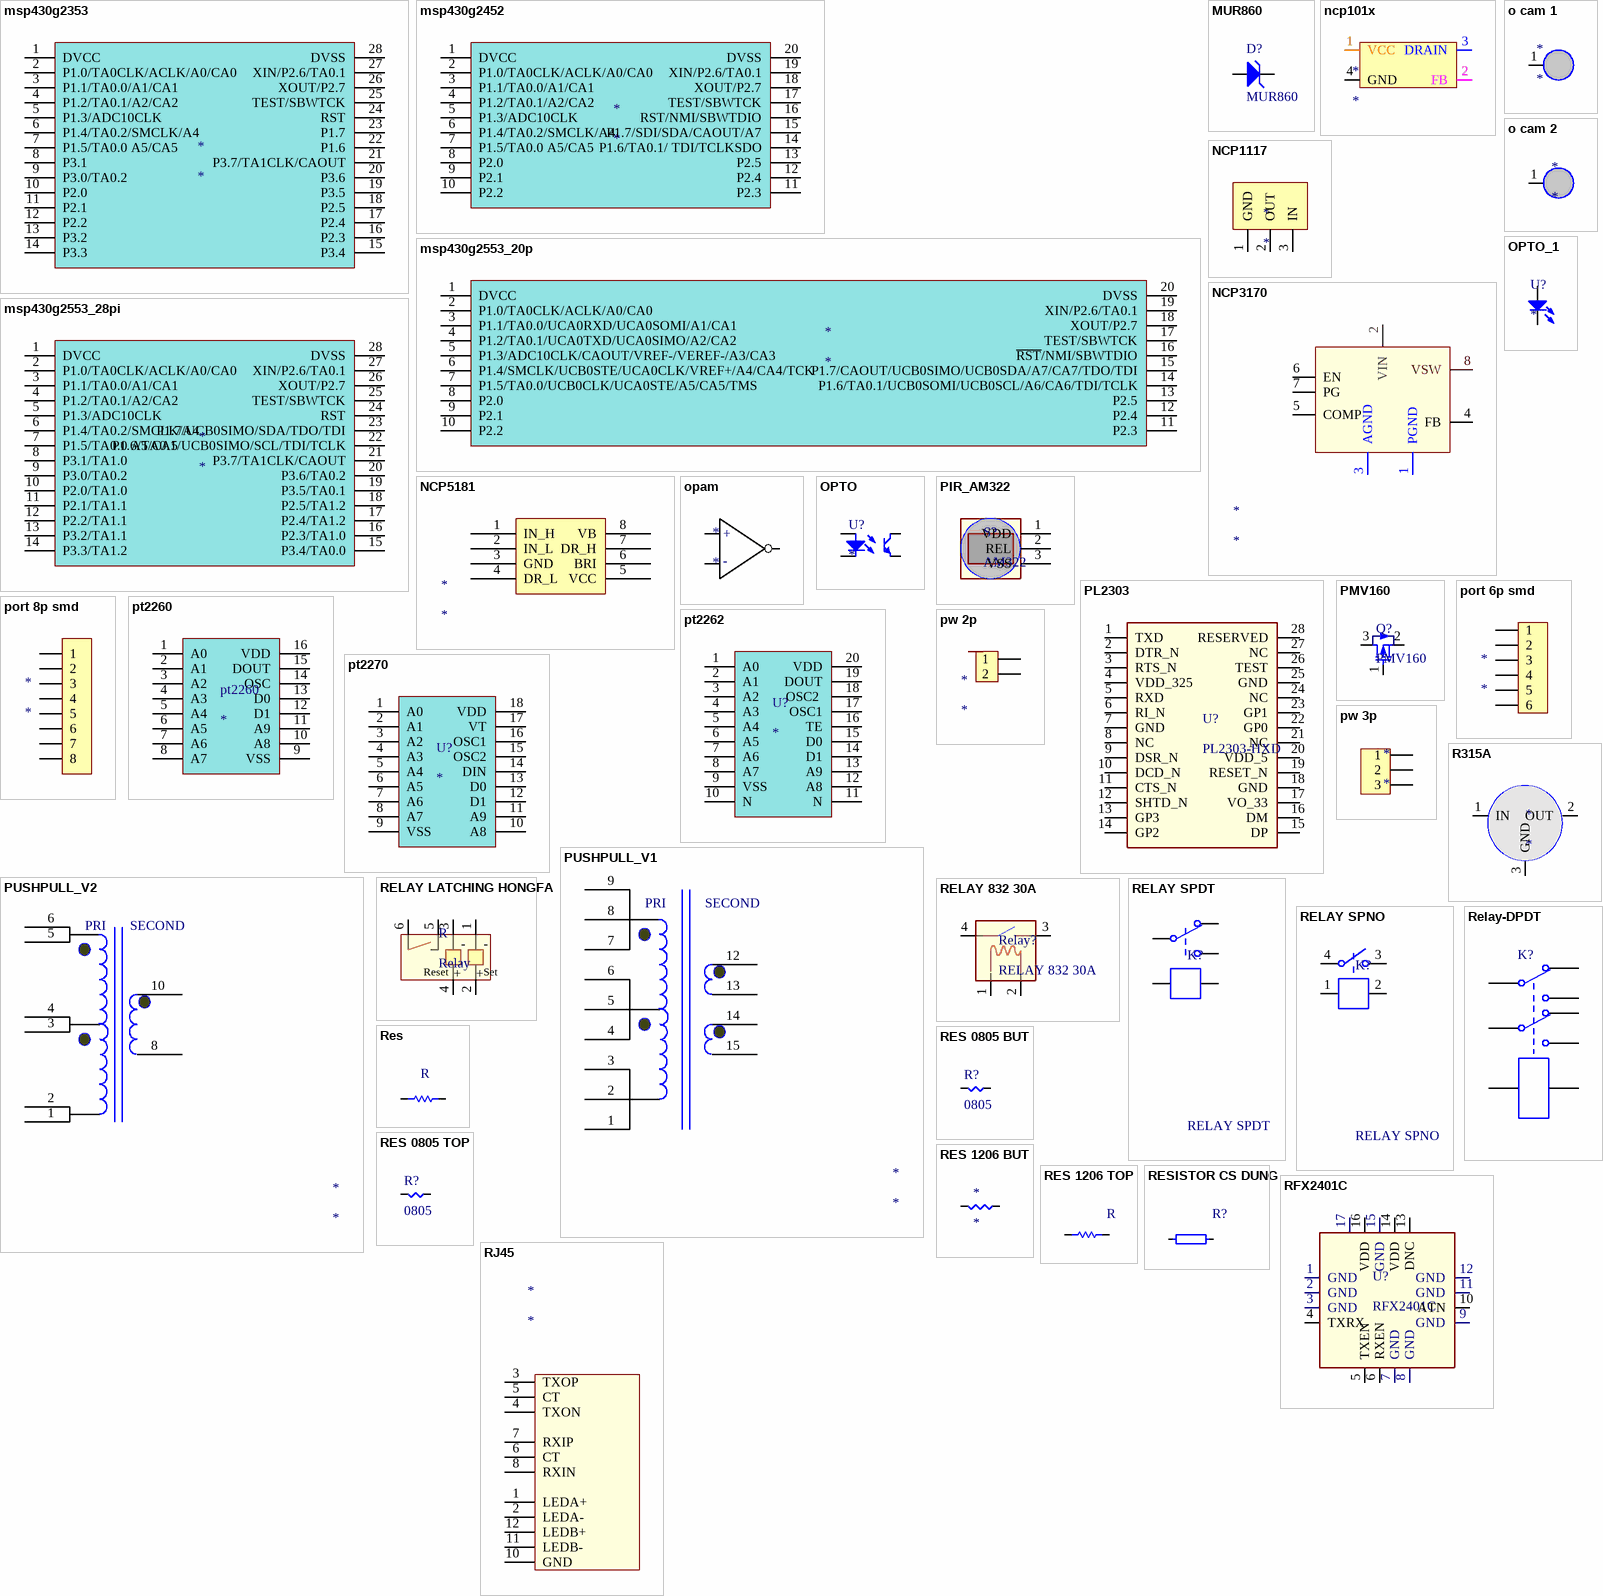
[diagram p4: symbols msp430g2353 to RJ45]

## msp430g2353
designator *
footprint SO-G28/C6.8 (SSOP, Plastic; 28 Leads; Body Width 5.3 mm; Pitch 0.65 mm)
pins: 1 DVCC, 2 P1.0/TA0CLK/ACLK/A0/CA0, 3 P1.1/TA0.0/A1/CA1, 4 P1.2/TA0.1/A2/CA2, 5 P1.3/ADC10CLK, 6 P1.4/TA0.2/SMCLK/A4, 7 P1.5/TA0.0 A5/CA5, 8 P3.1, 9 P3.0/TA0.2, 10 P2.0, 11 P2.1, 12 P2.2, 13 P3.2, 14 P3.3, 15 P3.4, 16 P2.3, 17 P2.4, 18 P2.5, 19 P3.5, 20 P3.6, 21 P3.7/TA1CLK/CAOUT, 22 P1.6, 23 P1.7, 24 RST, 25 TEST/SBWTCK, 26 XOUT/P2.7, 27 XIN/P2.6/TA0.1, 28 DVSS

## msp430g2452
designator *
footprint msp430g2452
pins: 1 DVCC, 2 P1.0/TA0CLK/ACLK/A0/CA0, 3 P1.1/TA0.0/A1/CA1, 4 P1.2/TA0.1/A2/CA2, 5 P1.3/ADC10CLK, 6 P1.4/TA0.2/SMCLK/A4, 7 P1.5/TA0.0 A5/CA5, 8 P2.0, 9 P2.1, 10 P2.2, 11 P2.3, 12 P2.4, 13 P2.5, 14 P1.6/TA0.1/ TDI/TCLKSDO, 15 P1.7/SDI/SDA/CAOUT/A7, 16 RST/NMI/SBWTDIO, 17 TEST/SBWTCK, 18 XOUT/P2.7, 19 XIN/P2.6/TA0.1, 20 DVSS

## msp430g2553_20p
designator *
footprint TSSOP_20PINS
pins: 1 DVCC, 2 P1.0/TA0CLK/ACLK/A0/CA0, 3 P1.1/TA0.0/UCA0RXD/UCA0SOMI/A1/CA1, 4 P1.2/TA0.1/UCA0TXD/UCA0SIMO/A2/CA2, 5 P1.3/ADC10CLK/CAOUT/VREF-/VEREF-/A3/CA3, 6 P1.4/SMCLK/UCB0STE/UCA0CLK/VREF+/A4/CA4/TCK, 7 P1.5/TA0.0/UCB0CLK/UCA0STE/A5/CA5/TMS, 8 P2.0, 9 P2.1, 10 P2.2, 11 P2.3, 12 P2.4, 13 P2.5, 14 P1.6/TA0.1/UCB0SOMI/UCB0SCL/A6/CA6/TDI/TCLK, 15 P1.7/CAOUT/UCB0SIMO/UCB0SDA/A7/CA7/TDO/TDI, 16 ~{RST}/NMI/SBWTDIO, 17 TEST/SBWTCK, 18 XOUT/P2.7, 19 XIN/P2.6/TA0.1, 20 DVSS

## msp430g2553_28pi
designator *
pins: 1 DVCC, 2 P1.0/TA0CLK/ACLK/A0/CA0, 3 P1.1/TA0.0/A1/CA1, 4 P1.2/TA0.1/A2/CA2, 5 P1.3/ADC10CLK, 6 P1.4/TA0.2/SMCLK/A4, 7 P1.5/TA0.0 A5/CA5, 8 P3.1/TA1.0, 9 P3.0/TA0.2, 10 P2.0/TA1.0, 11 P2.1/TA1.1, 12 P2.2/TA1.1, 13 P3.2/TA1.1, 14 P3.3/TA1.2, 15 P3.4/TA0.0, 16 P2.3/TA1.0, 17 P2.4/TA1.2, 18 P2.5/TA1.2, 19 P3.5/TA0.1, 20 P3.6/TA0.2, 21 P3.7/TA1CLK/CAOUT, 22 P1.6/TA0.1/UCB0SIMO/SCL/TDI/TCLK, 23 P1.7/UCB0SIMO/SDA/TDO/TDI, 24 RST, 25 TEST/SBWTCK, 26 XOUT/P2.7, 27 XIN/P2.6/TA0.1, 28 DVSS

## MUR860
designator D?
High Conductance Fast Diode; Published: 8-Jun-2000; LatestRevisionDate: 17-Jul-2002; LatestRevisionNote: Re-released for DXP Platform.; DatasheetVersion: 1997; PackageReference: DO-35; Publisher: Altium Limited; Code_JEDEC: DO-204-AH; ComponentLink1Description: Manufacturer Link; ComponentLink1URL: http://www.fairchildsemi.com/; ComponentLink2Description: Datasheet; ComponentLink2URL: http://www.fairchildsemi.com/ds/1N%2F1N4448.pdf
simulation model 1N914 (DIODE)
signal-integrity model 1N914
footprint TO220 - 2P
pins: 1 A, 2 K

## ncp101x
designator *
footprint SOT223
pins: 1 VCC, 2 FB, 3 DRAIN, 4 GND (power)

## NCP1117
designator *
footprint ncp1117
signal-integrity model NCP117 (IC Nguon)
pins: 1 GND, 2 OUT, 3 IN

## NCP3170
designator *
footprint SOIC 8 NB
pins: 1 PGND, 2 VIN, 3 AGND, 4 FB, 5 COMP, 6 EN, 7 PG, 8 VSW

## NCP5181
designator *
footprint P008 (DIP; 8 Leads; Row Spacing 7.62 mm; Pitch 2.54 mm)
pins: 1 IN_H, 2 IN_L, 3 GND, 4 DR_L, 5 VCC, 6 BRI, 7 DR_H, 8 VB

## o cam 1
designator *
footprint O CAM v1
pins: 1

## o cam 2
designator *
footprint O CAM v2
pins: 1

## opam
designator *
pins: 1, 2, 3
text: +; -

## OPTO
designator U?
footprint DIP_4_W300 (DIP; 8 Leads; Row Spacing 7.62 mm; Pitch 2.54 mm)
pins: 1 A, 2 K, 3 E, 4 C

## OPTO_1
designator U?
pins: 1 A, 2 K

## PIR_AM322
designator S?, comment AM322
footprint PIR_AM322
pins: 1 VDD, 2 REL, 3 VSS

## PL2303
designator U?, comment PL2303-HXD
footprint ssop28
pins: 1 TXD, 2 DTR_N, 3 RTS_N, 4 VDD_325, 5 RXD, 6 RI_N, 7 GND, 8 NC, 9 DSR_N, 10 DCD_N, 11 CTS_N, 12 SHTD_N, 13 GP3, 14 GP2, 15 DP, 16 DM, 17 VO_33, 18 GND, 19 RESET_N, 20 VDD_5, 21 NC, 22 GP0, 23 GP1, 24 NC, 25 GND, 26 TEST, 27 NC, 28 RESERVED

## PMV160
designator Q?
footprint SOT_23_TO_236AB (SOT23 OR TO-236AB)
signal-integrity model PMV160 (Model Description)
pins: 1 G, 2 S, 3 D

## port 6p smd
designator *
footprint port 8 smd
pins: 1, 2, 3, 4, 5, 6

## port 8p smd
designator *
footprint port 8 smd
pins: 1, 2, 3, 4, 5, 6, 7, 8

## pt2260
designator pt2260
footprint msp430g2452
pins: 1 A0, 2 A1, 3 A2, 4 A3, 5 A4, 6 A5, 7 A6, 8 A7, 9 VSS, 10 A8, 11 A9, 12 D1, 13 D0, 14 OSC, 15 DOUT, 16 VDD

## pt2262
designator U?
footprint msp430g2452
pins: 1 A0, 2 A1, 3 A2, 4 A3, 5 A4, 6 A5, 7 A6, 8 A7, 9 VSS, 10 N, 11 N, 12 A8, 13 A9, 14 D1, 15 D0, 16 TE, 17 OSC1, 18 OSC2 , 19 DOUT, 20 VDD

## pt2270
designator U?
footprint msp430g2452
pins: 1 A0, 2 A1, 3 A2, 4 A3, 5 A4, 6 A5, 7 A6, 8 A7, 9 VSS, 10 A8, 11 A9, 12 D1, 13 D0, 14 DIN, 15 OSC2, 16 OSC1, 17 VT, 18 VDD

## PUSHPULL_V1
designator *
footprint PUSHPULL_TRAN
pins: 1, 2, 3, 4, 5, 6, 7, 8, 9, 12, 13, 14, 15
text: PRI; SECOND

## PUSHPULL_V2
designator *
footprint PUSHPULL_TRAN
pins: 1, 2, 3, 4, 5, 6, 8, 10
text: PRI; SECOND

## pw 2p
designator *
footprint power 2p
pins: 1, 2

## pw 3p
designator *
footprint power 3 pin (hkgvh)
pins: 1, 2, 3

## R315A
designator *
pins: 1 IN, 2 OUT, 3 GND

## RELAY 832 30A
designator Relay?
footprint RELAY SONGCHUAN 832 30A
pins: 1, 2, 3, 4

## RELAY LATCHING HONGFA
designator R, comment Relay
footprint RELAY LATCHING HONGFA
pins: 1, 2, 3, 4, 5, 6
text: -; +; Reset; Set

## RELAY SPDT
designator K?
SINGLE Pole Dual-Throw Relay; Published: 24-Mar-1999; LatestRevisionDate: 17-Jul-2002; LatestRevisionNote: Re-released for DXP Platform.; PackageReference: DIP-P8; Publisher: Altium Limited; PackageDescription: Relay; 8 Leads
simulation model DPDTRELAY (Spice Subcircuit)
footprint RELAY SPDT
pins: 1, 2, 3, 4, 5

## RELAY SPNO
designator K?
SINGLE Pole Dual-Throw Relay; Published: 24-Mar-1999; LatestRevisionDate: 17-Jul-2002; LatestRevisionNote: Re-released for DXP Platform.; PackageReference: DIP-P8; Publisher: Altium Limited; PackageDescription: Relay; 8 Leads
simulation model DPDTRELAY (Spice Subcircuit)
footprint RELAY SONGCHUAN 834
pins: 1, 2, 3, 4

## Relay-DPDT
designator K?
Dual-Pole Dual-Throw Relay; Published: 24-Mar-1999; LatestRevisionDate: 17-Jul-2002; LatestRevisionNote: Re-released for DXP Platform.; PackageReference: DIP-P8; Publisher: Altium Limited; PackageDescription: Relay; 8 Leads
simulation model DPDTRELAY (Spice Subcircuit)
footprint ro le
pins: 1, 2, 3, 4, 5, 6, 7, 8

## Res
designator R
Resistor; Value: 1K; Published: 8-Jun-2000; LatestRevisionDate: 17-Jul-2002; LatestRevisionNote: Re-released for DXP Platform.; PackageReference: AXIAL-0.3; Publisher: Altium Limited
footprint res (Axial Device, Thru-Hole; 2 Leads; 0.3 in Pin Spacing)
simulation model RESISTOR (Resistor)
signal-integrity model Res
pins: 1, 2

## RES 0805 BUT
designator R?, comment 0805
Resistor
footprint RES 0805 BUT
pins: 1, 2

## RES 0805 TOP
designator R?, comment 0805
Resistor
footprint RES 0805 TOP
pins: 1, 2

## RES 1206 BUT
designator *
Resistor
footprint RES 1206 BUT
3D model res1206-1 (PCB3D Model)
pins: 1, 2

## RES 1206 TOP
designator R
Resistor; Value: 1K; Published: 8-Jun-2000; LatestRevisionDate: 17-Jul-2002; LatestRevisionNote: Re-released for DXP Platform.; PackageReference: AXIAL-0.3; Publisher: Altium Limited
footprint RES 1206 TOP
simulation model RESISTOR (Resistor)
signal-integrity model Res
pins: 1, 2

## RESISTOR CS DUNG
designator R?
Resistor; Value: 1K; Published: 8-Jun-2000; LatestRevisionDate: 17-Jul-2002; LatestRevisionNote: Re-released for DXP Platform.; PackageReference: AXIAL-0.3; Publisher: Altium Limited
footprint RES -3w DUNG (Axial Device, Thru-Hole; 2 Leads; 0.3 in Pin Spacing)
simulation model RESISTOR (Resistor)
signal-integrity model Res
pins: 1, 2

## RFX2401C
designator U?
footprint 16l qfn
pins: 1 GND, 2 GND, 3 GND, 4 TXRX, 5 TXEN, 6 RXEN, 7 GND, 8 GND, 9 GND, 10 ATN, 11 GND, 12 GND, 13 DNC, 14 VDD, 15 GND, 16 VDD, 17 GND

## RJ45
designator *
pins: 1 LEDA+, 2 LEDA-, 3 TXOP, 4 TXON, 5 CT, 6 CT, 7 RXIP, 8 RXIN, 10 GND, 11 LEDB-, 12 LEDB+

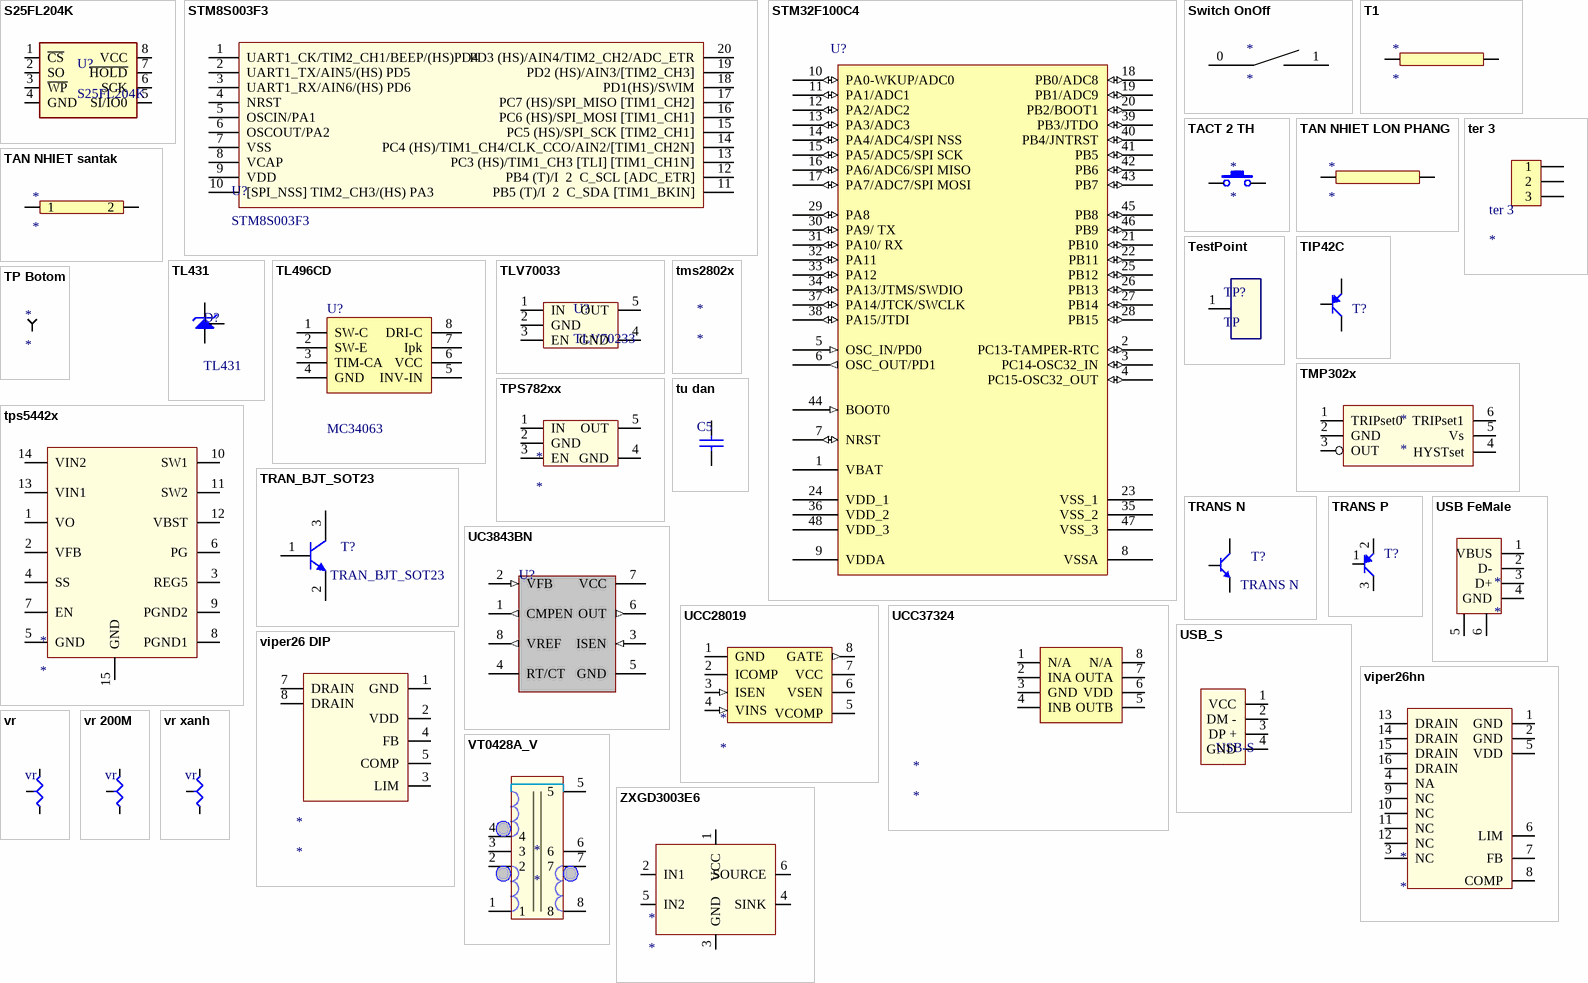
[diagram p5: symbols S25FL204K to ZXGD3003E6]

## S25FL204K
designator U?
footprint 8 soic 150mil
pins: 1 ~{CS}, 2 SO, 3 ~{WP}, 4 GND, 5 SI/IO0, 6 SCK, 7 ~{HOLD}, 8 VCC

## STM8S003F3
designator U?
footprint msp430g2452
pins: 1 UART1_CK/TIM2_CH1/BEEP/(HS)PD4, 2 UART1_TX/AIN5/(HS) PD5, 3 UART1_RX/AIN6/(HS) PD6, 4 NRST, 5 OSCIN/PA1, 6 OSCOUT/PA2, 7 VSS, 8 VCAP, 9 VDD, 10 [SPI_NSS] TIM2_CH3/(HS) PA3, 11 PB5 (T)/I  2  C_SDA [TIM1_BKIN], 12 PB4 (T)/I  2  C_SCL [ADC_ETR], 13 PC3 (HS)/TIM1_CH3 [TLI] [TIM1_CH1N], 14 PC4 (HS)/TIM1_CH4/CLK_CCO/AIN2/[TIM1_CH2N], 15 PC5 (HS)/SPI_SCK [TIM2_CH1], 16 PC6 (HS)/SPI_MOSI [TIM1_CH1], 17 PC7 (HS)/SPI_MISO [TIM1_CH2], 18 PD1(HS)/SWIM, 19 PD2 (HS)/AIN3/[TIM2_CH3], 20 PD3 (HS)/AIN4/TIM2_CH2/ADC_ETR

## STM32F100C4
designator U?
STM32 ARM-based 32-bit MCU with 32 Kbytes Flash, 48-pin LQFP, Industrial Temperature; Published: 30-May-2008; DatasheetVersion: rev6, Mar-2008; PackageVersion: Mar-2008; PackageReference: LQFP48; Publisher: Altium Limited; PackageDescription: 48-Pin Low-Profile Quad Flat Pack, 7 x 7 mm Body, 0.5 mm Pitch (LQFP48); ComponentLink1Description: Manufacturer Link; ComponentLink1URL: www.st.com/stm32; ComponentLink2Description: Datasheet; ComponentLink2URL: http://www.st.com/stonline/products/literature/ds/13586.pdf
footprint LQFP48_N (Thin QFP, 48-Leads, Body 7x7mm, Pitch 0.5mm, IPC Medium Density)
footprint LQFP48_L (Thin QFP, 48-Leads, Body 7x7mm, Pitch 0.5mm, IPC High Density)
footprint LQFP48_M (Thin QFP, 48-Leads, Body 7x7mm, Pitch 0.5mm, IPC Low Density)
pins: 1 VBAT (power), 2 PC13-TAMPER-RTC (io), 3 PC14-OSC32_IN (io), 4 PC15-OSC32_OUT (io), 5 OSC_IN/PD0 (in), 6 OSC_OUT/PD1 (out), 7 NRST (io), 8 VSSA (power), 9 VDDA (power), 10 PA0-WKUP/ADC0 (io), 11 PA1/ADC1 (io), 12 PA2/ADC2 (io), 13 PA3/ADC3 (io), 14 PA4/ADC4/SPI NSS (io), 15 PA5/ADC5/SPI SCK (io), 16 PA6/ADC6/SPI MISO (io), 17 PA7/ADC7/SPI MOSI (io), 18 PB0/ADC8 (io), 19 PB1/ADC9 (io), 20 PB2/BOOT1 (io), 21 PB10 (io), 22 PB11 (io), 23 VSS_1 (power), 24 VDD_1 (power), 25 PB12 (io), 26 PB13 (io), 27 PB14 (io), 28 PB15 (io), 29 PA8 (io), 30 PA9/ TX (io), 31 PA10/ RX (io), 32 PA11 (io), 33 PA12 (io), 34 PA13/JTMS/SWDIO (io), 35 VSS_2 (power), 36 VDD_2 (power), 37 PA14/JTCK/SWCLK (io), 38 PA15/JTDI (io), 39 PB3/JTDO (io), 40 PB4/JNTRST (io), 41 PB5 (io), 42 PB6 (io), 43 PB7 (io), 44 BOOT0 (in), 45 PB8 (io), 46 PB9 (io), 47 VSS_3 (power), 48 VDD_3 (power)

## Switch OnOff
designator *
footprint SWitch OnOff (Cong tac dong ngat)
pins: 0, 1

## T1
designator *
footprint TAN NHIET PFC
pins: 1, 2

## TACT 2 TH
designator *
footprint TACT SW TH
pins: 1, 2, 3, 4

## TAN NHIET LON PHANG
designator *
footprint Tan nhiet Fet
pins: 1, 2

## TAN NHIET santak
designator *
footprint Tan nhiet - santak
pins: 1, 2

## ter 3
designator ter 3
footprint terminal 3 pin
pins: 1, 2, 3

## TestPoint
designator TP?, comment TP
footprint TEST_POINT_1
pins: 1

## TIP42C
designator T?
PNP Bipolar Transistor; Published: 8-Jun-2000; LatestRevisionDate: 17-Jul-2002; LatestRevisionNote: Re-released for DXP Platform.; PackageReference: SOT-23B; Publisher: Altium Limited; Code_JEDEC: SOT-23
footprint TO220
simulation model PNP
signal-integrity model PNP
pins: 1 B, 2 C, 3 E

## TL431
designator D?
High Conductance Fast Diode; Published: 8-Jun-2000; LatestRevisionDate: 17-Jul-2002; LatestRevisionNote: Re-released for DXP Platform.; DatasheetVersion: 1997; PackageReference: DO-35; Publisher: Altium Limited; Code_JEDEC: DO-204-AH; ComponentLink1Description: Manufacturer Link; ComponentLink1URL: http://www.fairchildsemi.com/; ComponentLink2Description: Datasheet; ComponentLink2URL: http://www.fairchildsemi.com/ds/1N%2F1N4448.pdf
footprint TL431
simulation model 1N914 (DIODE)
signal-integrity model 1N914
pins: 1, 2 A, 3 K

## TL496CD
designator U?, comment MC34063
9-Volt Power-Supply Controller; Note: Pins 5 & 7 are connected together internally, but must terminate together to ensure proper circuit operation.; Published: 15-Apr-2002; LatestRevisionDate: 13-Apr-2006; LatestRevisionNote: IPC-7351 Footprint Added.; DatasheetVersion: Feb-1988; PackageVersion: Jan-1998; PackageReference: D008; Publisher: Altium Limited; PackageDescription: 8-Pin Small Outline Integrated Circuit 1.27 mm Pitch; Code_IPC: SOIC127P600-8; ComponentLink1Description: Manufacturer Link; ComponentLink1URL: http://www.ti.com/
footprint JG008 (DIP; 8 Leads; Row Spacing 7.62 mm; Pitch 2.54 mm)
pins: 1 SW-C (power), 2 SW-E (power), 3 TIM-CA (power), 4 GND (power), 5 INV-IN (power), 6 VCC, 7 Ipk, 8 DRI-C (power)

## TLV70033
designator U?, comment TLV70233
footprint TSOT_235
footprint SOT_235
pins: 1 IN, 2 GND, 3 EN, 4 GND, 5 OUT

## TMP302x
designator *
footprint TMP302x
signal-integrity model U? (Temperature sensor)
pins: 1 TRIPset0, 2 GND, 3 OUT, 4 HYSTset, 5 Vs, 6 TRIPset1

## tms2802x
designator *

## TP Botom
designator *
footprint TEST POINT
pins: 1

## TPS782xx
designator *
footprint sot235 but
pins: 1 IN, 2 GND, 3 EN, 4 GND, 5 OUT

## tps5442x
designator *
footprint SSOP14
pins: 1 VO, 2 VFB, 3 REG5, 4 SS, 5 GND, 6 PG, 7 EN, 8 PGND1, 9 PGND2, 10 SW1, 11 SW2, 12 VBST, 13 VIN1, 14 VIN2, 15 GND